# Altium schematic symbol library VC099_V13_20211125_Library.SchLib: 284 symbols (part 19 of 28)
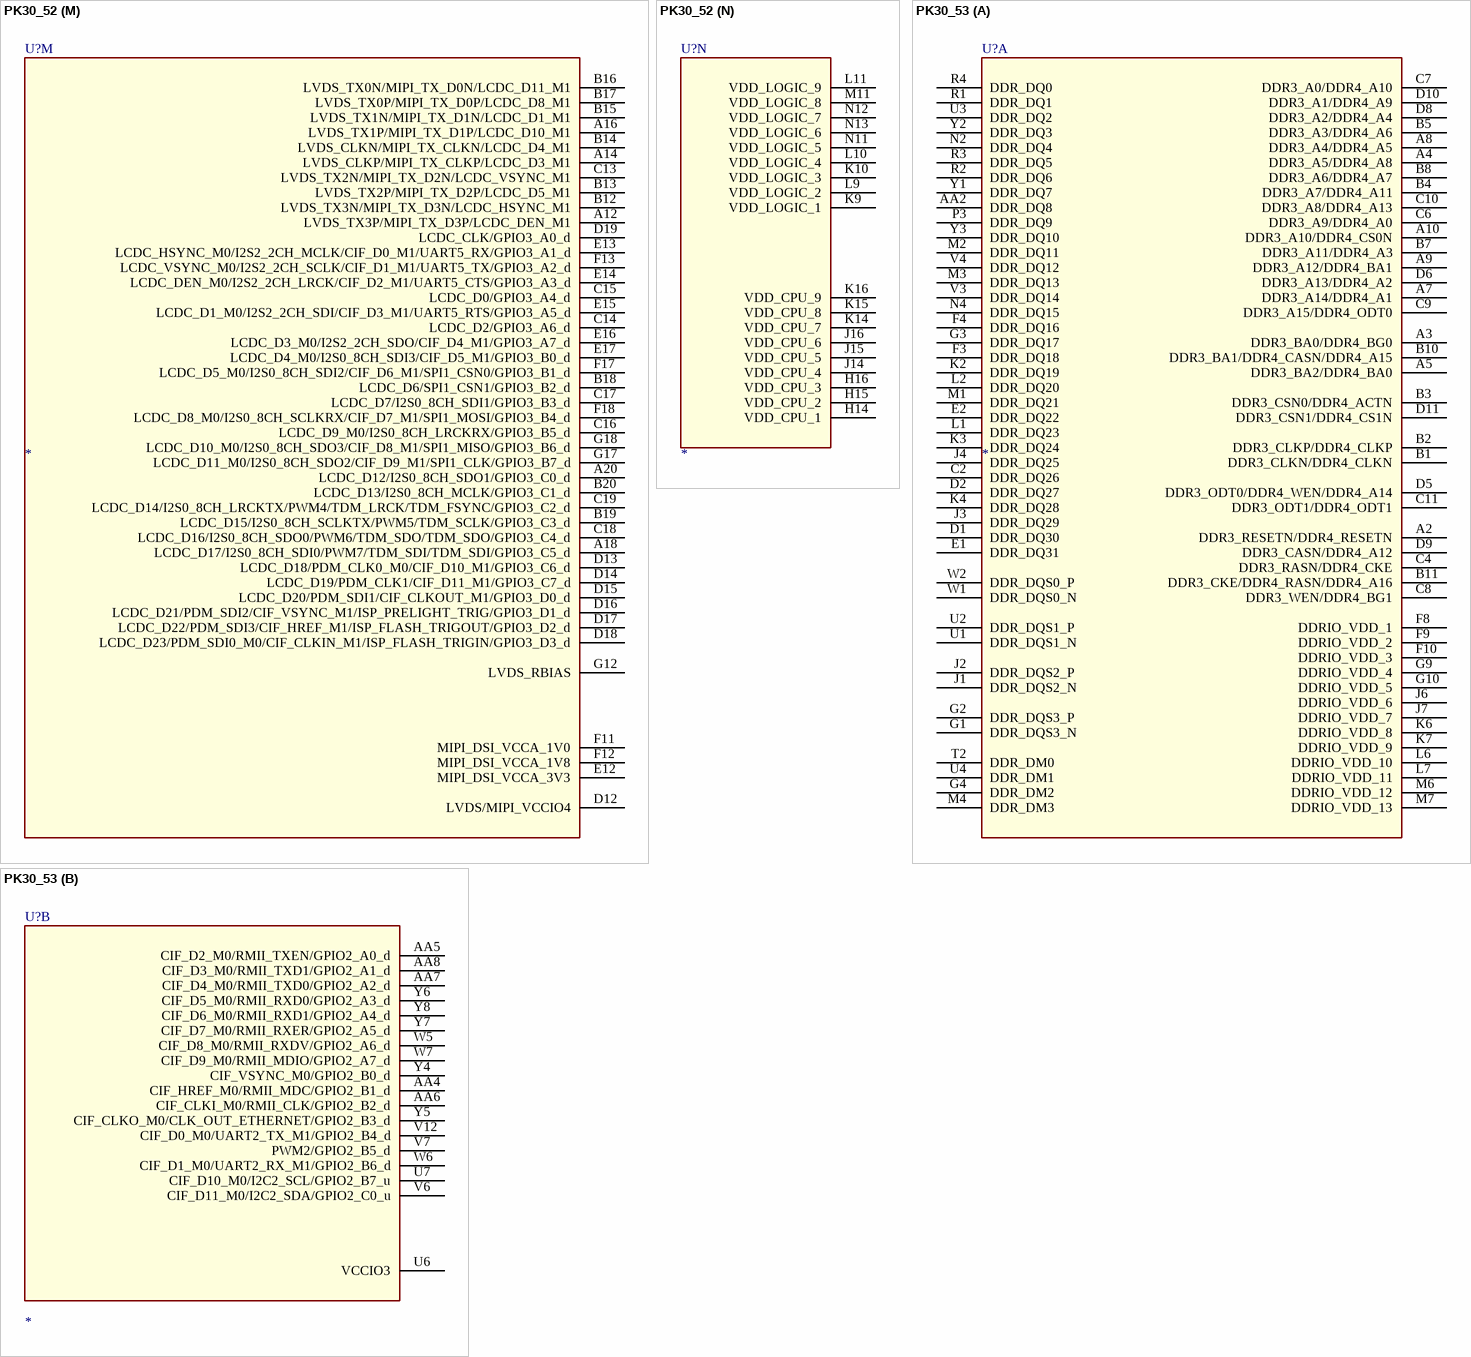
[diagram p381: symbols PK30_52 to PK30_53]

## PK30_52
designator U?
SPLIT_INST: TRUE; SWAP_INFO: (S1+S2+S3+S4+S5+S6+S7+S8+S9+S10+S11+S12+S13+S14)
part A pins: A2 DDR3_RESETN/DDR4_RESETN, A3 DDR3_BA0/DDR4_BG0, A4 DDR3_A5/DDR4_A8, A5 DDR3_BA2/DDR4_BA0, A7 DDR3_A14/DDR4_A1, A8 DDR3_A4/DDR4_A5, A9 DDR3_A12/DDR4_BA1, A10 DDR3_A10/DDR4_CS0N, AA2 DDR_DQ8, B1 DDR3_CLKN/DDR4_CLKN, B2 DDR3_CLKP/DDR4_CLKP, B3 DDR3_CSN0/DDR4_ACTN, B4 DDR3_A7/DDR4_A11, B5 DDR3_A3/DDR4_A6, B7 DDR3_A11/DDR4_A3, B8 DDR3_A6/DDR4_A7, B10 DDR3_BA1/DDR4_CASN/DDR4_A15, B11 DDR3_CKE/DDR4_RASN/DDR4_A16, C2 DDR_DQ26, C4 DDR3_RASN/DDR4_CKE, C6 DDR3_A9/DDR4_A0, C7 DDR3_A0/DDR4_A10, C8 DDR3_WEN/DDR4_BG1, C9 DDR3_A15/DDR4_ODT0, C10 DDR3_A8/DDR4_A13, C11 DDR3_ODT1/DDR4_ODT1, D1 DDR_DQ30, D2 DDR_DQ27, D5 DDR3_ODT0/DDR4_WEN/DDR4_A14, D6 DDR3_A13/DDR4_A2, D8 DDR3_A2/DDR4_A4, D9 DDR3_CASN/DDR4_A12, D10 DDR3_A1/DDR4_A9, D11 DDR3_CSN1/DDR4_CS1N, E1 DDR_DQ31, E2 DDR_DQ22, F3 DDR_DQ18, F4 DDR_DQ16, F8 DDRIO_VDD_1, F9 DDRIO_VDD_2, F10 DDRIO_VDD_3, G1 DDR_DQS3_N, G2 DDR_DQS3_P, G3 DDR_DQ17, G4 DDR_DM2, G9 DDRIO_VDD_4, G10 DDRIO_VDD_5, J1 DDR_DQS2_N, J2 DDR_DQS2_P, J3 DDR_DQ29, J4 DDR_DQ25, J6 DDRIO_VDD_6, J7 DDRIO_VDD_7, K2 DDR_DQ19, K3 DDR_DQ24, K4 DDR_DQ28, K6 DDRIO_VDD_8, K7 DDRIO_VDD_9, L1 DDR_DQ23, L2 DDR_DQ20, L6 DDRIO_VDD_10, L7 DDRIO_VDD_11, M1 DDR_DQ21, M2 DDR_DQ11, M3 DDR_DQ13, M4 DDR_DM3, M6 DDRIO_VDD_12, M7 DDRIO_VDD_13, N2 DDR_DQ4, N4 DDR_DQ15, P3 DDR_DQ9, R1 DDR_DQ1, R2 DDR_DQ6, R3 DDR_DQ5, R4 DDR_DQ0, T2 DDR_DM0, U1 DDR_DQS1_N, U2 DDR_DQS1_P, U3 DDR_DQ2, U4 DDR_DM1, V3 DDR_DQ14, V4 DDR_DQ12, W1 DDR_DQS0_N, W2 DDR_DQS0_P, Y1 DDR_DQ7, Y2 DDR_DQ3, Y3 DDR_DQ10
part B pins: AA4 CIF_HREF_M0/RMII_MDC/GPIO2_B1_d, AA5 CIF_D2_M0/RMII_TXEN/GPIO2_A0_d, AA6 CIF_CLKI_M0/RMII_CLK/GPIO2_B2_d, AA7 CIF_D4_M0/RMII_TXD0/GPIO2_A2_d, AA8 CIF_D3_M0/RMII_TXD1/GPIO2_A1_d, U6 VCCIO3, U7 CIF_D10_M0/I2C2_SCL/GPIO2_B7_u, V6 CIF_D11_M0/I2C2_SDA/GPIO2_C0_u, V7 PWM2/GPIO2_B5_d, V12 CIF_D0_M0/UART2_TX_M1/GPIO2_B4_d, W5 CIF_D8_M0/RMII_RXDV/GPIO2_A6_d, W6 CIF_D1_M0/UART2_RX_M1/GPIO2_B6_d, W7 CIF_D9_M0/RMII_MDIO/GPIO2_A7_d, Y4 CIF_VSYNC_M0/GPIO2_B0_d, Y5 CIF_CLKO_M0/CLK_OUT_ETHERNET/GPIO2_B3_d, Y6 CIF_D5_M0/RMII_RXD0/GPIO2_A3_d, Y7 CIF_D7_M0/RMII_RXER/GPIO2_A5_d, Y8 CIF_D6_M0/RMII_RXD1/GPIO2_A4_d
part C pins: A1 VSS_1, A11 VSS_5, A21 VSS_2, AA1 VSS_4, AA3 VSS_98, AA21 VSS_3, B6 VSS_6, B9 VSS_7, C3 VSS_8, C5 VSS_9, C12 VSS_10, D3 VSS_11, D4 VSS_12, D7 VSS_13, E3 VSS_14, E4 VSS_15, E5 VSS_16, E6 VSS_17, E7 VSS_18, E8 VSS_19, E9 VSS_20, E10 VSS_21, E11 VSS_24, F2 VSS_22, F5 VSS_23, F14 VSS_25, F15 VSS_26, F16 VSS_27, G5 VSS_28, G7 VSS_29, G8 VSS_30, G11 VSS_31, G13 VSS_33, G14 VSS_34, G15 VSS_48, G16 VSS_47, H2 VSS_37, H3 VSS_38, H4 VSS_39, H5 VSS_40, H7 VSS_41, H8 VSS_42, H9 VSS_43, H10 VSS_44, H11 VSS_45, H12 VSS_46, H13 VSS_55, H17 VSS_57, HOLE1, HOLE2, HOLE3, HOLE4, J5 VSS_49, J8 VSS_50, J9 VSS_51, J10 VSS_52, J11 VSS_53, J12 VSS_54, J13 VSS_64, J17 VSS_56, K5 VSS_58, K8 VSS_59, K11 VSS_61, K12 VSS_63, K13 VSS_65, K17 VSS_67, K18 VSS_68, L3 VSS_70, L4 VSS_71, L5 VSS_72, L8 VSS_73, L12 VSS_77, L13 VSS_69, L14 VSS_66, L15 VSS_87, L16 VSS_88, L17 VSS_78, L18 VSS_79, M5 VSS_80, M8 VSS_81, M9 VSS_84, M10 VSS_85, M12 VSS_62, M13 VSS_60, M14 VSS_75, M15 VSS_82, M16 VSS_83, M17 VSS_86, N3 VSS_89, N5 VSS_90, N6 VSS_91, N7 VSS_92, N8 VSS_93, N9 VSS_96, N10 VSS_97, N14 VSS_74, N15 VSS_94, N16 VSS_95, P4 VSS_100, P5 VSS_101, P6 VSS_102, P7 VSS_103, P8 VSS_104, P9 VSS_105, P10 VSS_106, P11 VSS_107, P12 VSS_108, P13 VSS_109, P14 VSS_110, P15 VSS_112, P16 VSS_111, R5 VSS_113, R6 VSS_114, R7 VSS_115, R8 VSS_116, R9 VSS_117, R10 VSS_118, R11 VSS_119, R12 VSS_120, R13 VSS_121, R14 VSS_122, R15 VSS_123, R16 VSS_124, R17 VSS_125, T3 VSS_126, T4 VSS_127, T5 VSS_128, T6 VSS_129, T7 VSS_130, T8 VSS_131, T9 VSS_132, T10 VSS_133, T11 VSS_134, T12 VSS_36, T14 VSS_136, T15 VSS_137, T16 VSS_138, T17 VSS_139, T18 VSS_140, U5 VSS_141, U14 VSS_142, U15 VSS_143, U16 VSS_144, U17 VSS_145, U18 VSS_146, V2 VSS_147, V5 VSS_148, V16 VSS_149, V17 VSS_150, V18 VSS_151, V19 VSS_152, W3 VSS_32, W4 VSS_135, W11 VSS_35, W17 VSS_99, W18 VSS_76
part D pins: U8 MIPI_CSI_AVDD_1V0, U9 MIPI_CSI_D2P, U10 MIPI_CSI_CLKN, U11 MIPI_CSI_RBIAS, V8 MIPI_CSI_D2N, V9 MIPI_CSI_D3P, V10 MIPI_CSI_CLKP, V11 MIPI_CSI_D0N, W8 MIPI_CSI_D3N, W9 MIPI_CSI_D1N, W10 MIPI_CSI_D0P, Y9 MIPI_CSI_D1P
part E pins: AA10 USB_OTG_DM, AA11 USB_RBIAS, AA12 USB_HOST_DP, U12 USB_AVDD_1V0, V13 USB_AVDD_1V8, W13 USB_AVDD_3V3, Y10 USB_OTG_DP, Y11 USB_ID, Y12 USB_HOST_DM, Y13 USB_VBUS
part F pins: U13 ADC_AVDD_1V8, V14 ADC_IN0, V15 ADC_IN2, W14 ADC_IN1
part G pins: AA13 I2S1_2CH_SDI/PDM_SDIO_M1/GPIO2_C5_d, AA14 I2S1_2CH_SCLK/GPIO2_C2_d, AA15 I2S1_2CH_LRCK_TXRX/GPIO2_C1_d, W15 PDM_CLK0/GPIO2_C6_d, W16 VCCIO5, Y14 I2S1_2CH_MCLK/GPIO2_C3_d, Y15 I2S1_2CH_SDO/GPIO2_C4_d
part H pins: AA16 SDMMC0_D3/UART4_TX/JTAG_TMS/GPIO1_D5_u, AA17 SDMMC0_D0/UART2_TX_M0/GPIO1_D2_u, AA18 SDMMC0_D1/UART2_RX_M0/GPIO1_D3_u, AA19 SDMMC0_D2/UART4_RX/JTAG_TCK/GPIO1_D4_u, Y16 SDMMC0_CMD/UART4_RTS/GPIO1_D7_u, Y17 SDMMC0_CLKO/UART4_CTS/TEST_CLKO/GPIO1_D6_d, Y18 VCCIO2
part I pins: AA20 SDMMC0_DETN/GPIO0_A3_u, M18 PLL_AVDD_1V8, N17 AVSS, N18 PLL_AVDD_1V0, P17 PMU_VDD_1V0, T13 OTP_VCC_1V8, T21 GPIO0_A5_u, U19 PMUIO1, U20 OSC_24M_IN, U21 OSC_24M_OUT, V20 PMIC_SLEEP/GPIO0_A4_d, V21 GPIO0_A2_d, W19 NPOR, W20 TEST, W21 TSADC_SHUT/GPIO0_A6_z, Y19 GPIO0_A7_u, Y20 GPIO0_A1_d, Y21 REF_CLKO/GPIO0_A0_d
part J pins: M19 PWM0/OTG_DRV/GPIO0_B7_d, N19 UART0_RTS/TEST_CLK1/GPIO0_B5_u, N20 UART0_TX/GPIO0_B2_d, N21 UART3_TX_M0/PWM1/GPIO0_C0_d, P18 UART0_RX/GPIO0_B3_d, P19 UART3_RX_M0/PWM3/GPIO0_C1_d, P20 CLKIO_32K/GPIO0_C4_z, P21 I2C0_SDA/GPIO0_B1_u, R18 UART0_CTS/PMU_DEBUG_SOUT/PMU_DEBUG2/GPIO0_B4_u, R19 FLASH_VOLSEL/GPIO0_B6_u, R20 I2C1_SDA/UART3_RTS_M0/GPIO0_C3_d, R21 I2C0_SCL/GPIO0_B0_u, T19 OSC_VCCIO/PMUIO2, T20 I2C1_SCL/UART3_CTS_M0/PMU_DEBUG5/GPIO0_C2_d
part K pins: H19 SDMMC1_CMD/GPIO1_C4_u, J19 SDMMC1_D3/GPIO1_D1_u, J20 UART1_RX/GPIO1_C0_u, K19 VCCIO1, K20 UART1_TX/GPIO1_C1_u, K21 UART1_CTS/GPIO1_C2_u, L19 SDMMC1_D1/GPIO1_C7_u, L20 SDMMC1_D0/GPIO1_C6_u, L21 UART1_RTS/GPIO1_C3_u, M20 SDMMC1_CLK/GPIO1_C5_d, M21 SDMMC1_D2/GPIO1_D0_u
part L pins: B21 FLASH_D7/EMMC_D7/GPIO1_A7_u, C20 FLASH_D6/EMMC_D6/GPIO1_A6_u, C21 FLASH_D2/EMMC_D2/SFC_SIO2/GPIO1_A2_u, D20 FLASH_D5/EMMC_D5/GPIO1_A5_u, D21 FLASH_D1/EMMC_D1/SFC_SIO1/GPIO1_A1_u, E18 FLASH_ALE/EMMC_RSTN/GPIO1_B3_d, E19 FLASH_D3/EMMC_D3/SFC_SIO3/GPIO1_A3_u, E20 FLASH_D0/EMMC_D0/SFC_SIO0/GPIO1_A0_u, E21 FLASH_D4/EMMC_D4/SFC_CSN0/GPIO1_A4_u, F19 FLASH_CS0/GPIO1_B0_u, G19 FLASH_DQS/EMMC_CMD/GPIO1_B2_u, G20 FLASH_CS1/UART3_TX_M1/SPI0_CSN/GPIO1_B6_u, G21 FLASH_CLE/UART3_CTS_M1/SPI0_TXD/I2C3_SDA/GPIO1_B4_d, H18 FLASH_RDY/EMMC_CLKOUT/SFC_CLK/GPIO1_B1_u, H20 FLASH_WRN/UART3_RTS_M1/SPI0_RXD/I2C3_SCL/GPIO1_B5_u, H21 FLASH_RDN/UART3_RX_M1/SPI0_CLK/GPIO1_B7_u, J18 VCCIO6
part M pins: A12 LVDS_TX3P/MIPI_TX_D3P/LCDC_DEN_M1, A14 LVDS_CLKP/MIPI_TX_CLKP/LCDC_D3_M1, A16 LVDS_TX1P/MIPI_TX_D1P/LCDC_D10_M1, A18 LCDC_D17/I2S0_8CH_SDI0/PWM7/TDM_SDI/TDM_SDI/GPIO3_C5_d, A20 LCDC_D12/I2S0_8CH_SDO1/GPIO3_C0_d, B12 LVDS_TX3N/MIPI_TX_D3N/LCDC_HSYNC_M1, B13 LVDS_TX2P/MIPI_TX_D2P/LCDC_D5_M1, B14 LVDS_CLKN/MIPI_TX_CLKN/LCDC_D4_M1, B15 LVDS_TX1N/MIPI_TX_D1N/LCDC_D1_M1, B16 LVDS_TX0N/MIPI_TX_D0N/LCDC_D11_M1, B17 LVDS_TX0P/MIPI_TX_D0P/LCDC_D8_M1, B18 LCDC_D6/SPI1_CSN1/GPIO3_B2_d, B19 LCDC_D15/I2S0_8CH_SCLKTX/PWM5/TDM_SCLK/GPIO3_C3_d, B20 LCDC_D13/I2S0_8CH_MCLK/GPIO3_C1_d, C13 LVDS_TX2N/MIPI_TX_D2N/LCDC_VSYNC_M1, C14 LCDC_D2/GPIO3_A6_d, C15 LCDC_D0/GPIO3_A4_d, C16 LCDC_D9_M0/I2S0_8CH_LRCKRX/GPIO3_B5_d, C17 LCDC_D7/I2S0_8CH_SDI1/GPIO3_B3_d, C18 LCDC_D16/I2S0_8CH_SDO0/PWM6/TDM_SDO/TDM_SDO/GPIO3_C4_d, C19 LCDC_D14/I2S0_8CH_LRCKTX/PWM4/TDM_LRCK/TDM_FSYNC/GPIO3_C2_d, D12 LVDS/MIPI_VCCIO4, D13 LCDC_D18/PDM_CLK0_M0/CIF_D10_M1/GPIO3_C6_d, D14 LCDC_D19/PDM_CLK1/CIF_D11_M1/GPIO3_C7_d, D15 LCDC_D20/PDM_SDI1/CIF_CLKOUT_M1/GPIO3_D0_d, D16 LCDC_D21/PDM_SDI2/CIF_VSYNC_M1/ISP_PRELIGHT_TRIG/GPIO3_D1_d, D17 LCDC_D22/PDM_SDI3/CIF_HREF_M1/ISP_FLASH_TRIGOUT/GPIO3_D2_d, D18 LCDC_D23/PDM_SDI0_M0/CIF_CLKIN_M1/ISP_FLASH_TRIGIN/GPIO3_D3_d, D19 LCDC_CLK/GPIO3_A0_d, E12 MIPI_DSI_VCCA_3V3, E13 LCDC_HSYNC_M0/I2S2_2CH_MCLK/CIF_D0_M1/UART5_RX/GPIO3_A1_d, E14 LCDC_DEN_M0/I2S2_2CH_LRCK/CIF_D2_M1/UART5_CTS/GPIO3_A3_d, E15 LCDC_D1_M0/I2S2_2CH_SDI/CIF_D3_M1/UART5_RTS/GPIO3_A5_d, E16 LCDC_D3_M0/I2S2_2CH_SDO/CIF_D4_M1/GPIO3_A7_d, E17 LCDC_D4_M0/I2S0_8CH_SDI3/CIF_D5_M1/GPIO3_B0_d, F11 MIPI_DSI_VCCA_1V0, F12 MIPI_DSI_VCCA_1V8, F13 LCDC_VSYNC_M0/I2S2_2CH_SCLK/CIF_D1_M1/UART5_TX/GPIO3_A2_d, F17 LCDC_D5_M0/I2S0_8CH_SDI2/CIF_D6_M1/SPI1_CSN0/GPIO3_B1_d, F18 LCDC_D8_M0/I2S0_8CH_SCLKRX/CIF_D7_M1/SPI1_MOSI/GPIO3_B4_d, G12 LVDS_RBIAS, G17 LCDC_D11_M0/I2S0_8CH_SDO2/CIF_D9_M1/SPI1_CLK/GPIO3_B7_d, G18 LCDC_D10_M0/I2S0_8CH_SDO3/CIF_D8_M1/SPI1_MISO/GPIO3_B6_d
part N pins: H14 VDD_CPU_1, H15 VDD_CPU_2, H16 VDD_CPU_3, J14 VDD_CPU_4, J15 VDD_CPU_5, J16 VDD_CPU_6, K9 VDD_LOGIC_1, K10 VDD_LOGIC_3, K14 VDD_CPU_7, K15 VDD_CPU_8, K16 VDD_CPU_9, L9 VDD_LOGIC_2, L10 VDD_LOGIC_4, L11 VDD_LOGIC_9, M11 VDD_LOGIC_8, N11 VDD_LOGIC_5, N12 VDD_LOGIC_7, N13 VDD_LOGIC_6
part J text: FLASH_VOLSEL  1: VCCIO_FLASH=1.8V / 0: VCCIO_FLASH=3.3V

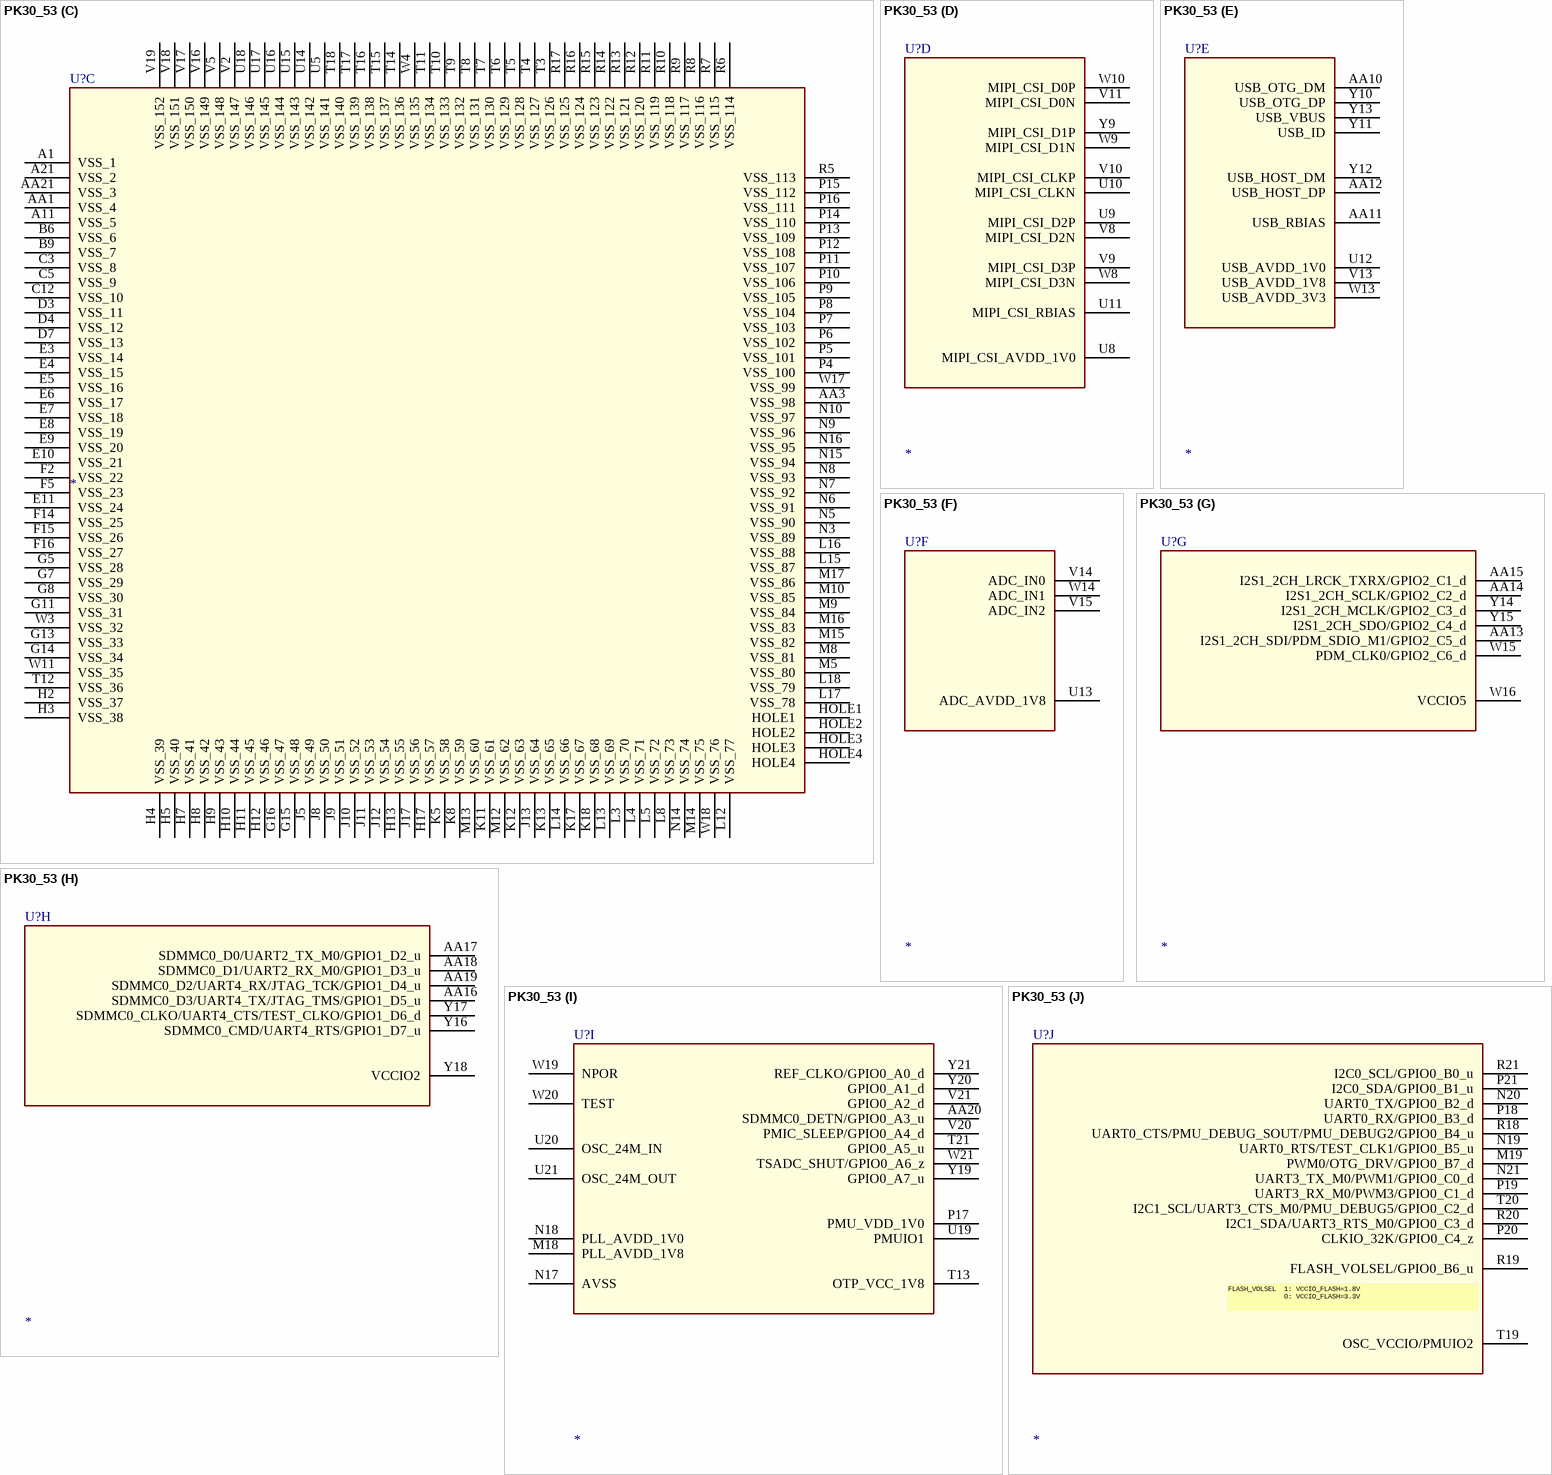
[diagram p252: symbol PK30_53]

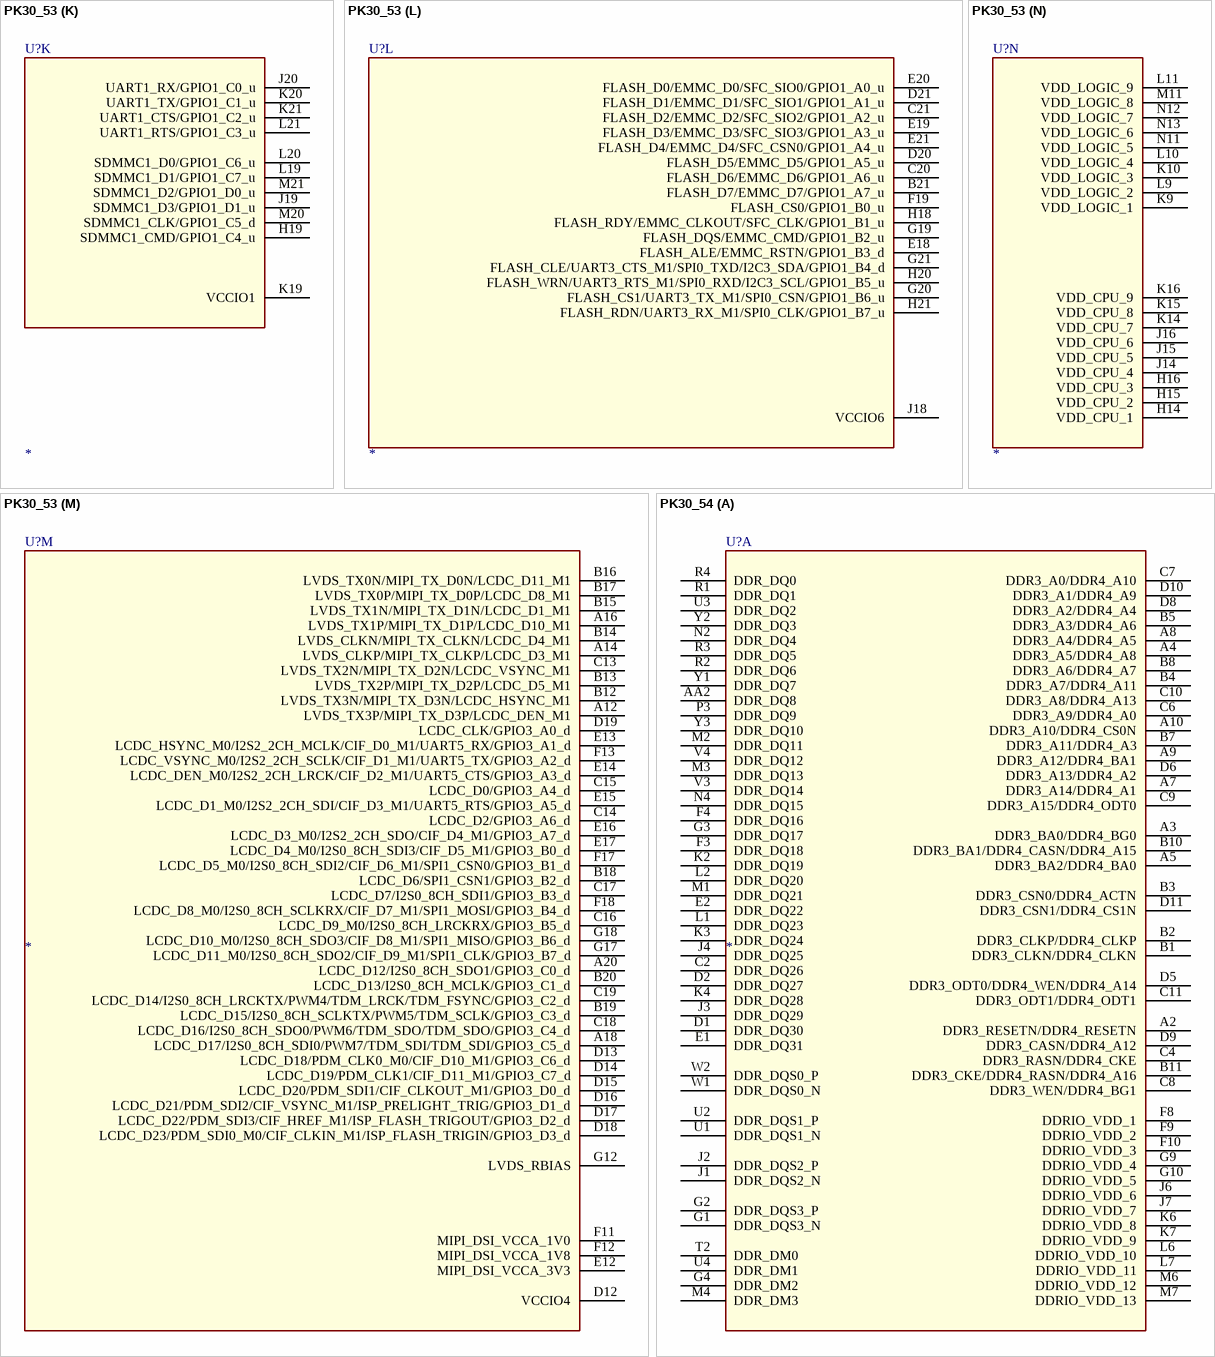
[diagram p253: symbols PK30_53 to PK30_54]

## PK30_53
designator U?
SPLIT_INST: TRUE; SWAP_INFO: (S1+S2+S3+S4+S5+S6+S7+S8+S9+S10+S11+S12+S13+S14)
part A pins: A2 DDR3_RESETN/DDR4_RESETN, A3 DDR3_BA0/DDR4_BG0, A4 DDR3_A5/DDR4_A8, A5 DDR3_BA2/DDR4_BA0, A7 DDR3_A14/DDR4_A1, A8 DDR3_A4/DDR4_A5, A9 DDR3_A12/DDR4_BA1, A10 DDR3_A10/DDR4_CS0N, AA2 DDR_DQ8, B1 DDR3_CLKN/DDR4_CLKN, B2 DDR3_CLKP/DDR4_CLKP, B3 DDR3_CSN0/DDR4_ACTN, B4 DDR3_A7/DDR4_A11, B5 DDR3_A3/DDR4_A6, B7 DDR3_A11/DDR4_A3, B8 DDR3_A6/DDR4_A7, B10 DDR3_BA1/DDR4_CASN/DDR4_A15, B11 DDR3_CKE/DDR4_RASN/DDR4_A16, C2 DDR_DQ26, C4 DDR3_RASN/DDR4_CKE, C6 DDR3_A9/DDR4_A0, C7 DDR3_A0/DDR4_A10, C8 DDR3_WEN/DDR4_BG1, C9 DDR3_A15/DDR4_ODT0, C10 DDR3_A8/DDR4_A13, C11 DDR3_ODT1/DDR4_ODT1, D1 DDR_DQ30, D2 DDR_DQ27, D5 DDR3_ODT0/DDR4_WEN/DDR4_A14, D6 DDR3_A13/DDR4_A2, D8 DDR3_A2/DDR4_A4, D9 DDR3_CASN/DDR4_A12, D10 DDR3_A1/DDR4_A9, D11 DDR3_CSN1/DDR4_CS1N, E1 DDR_DQ31, E2 DDR_DQ22, F3 DDR_DQ18, F4 DDR_DQ16, F8 DDRIO_VDD_1, F9 DDRIO_VDD_2, F10 DDRIO_VDD_3, G1 DDR_DQS3_N, G2 DDR_DQS3_P, G3 DDR_DQ17, G4 DDR_DM2, G9 DDRIO_VDD_4, G10 DDRIO_VDD_5, J1 DDR_DQS2_N, J2 DDR_DQS2_P, J3 DDR_DQ29, J4 DDR_DQ25, J6 DDRIO_VDD_6, J7 DDRIO_VDD_7, K2 DDR_DQ19, K3 DDR_DQ24, K4 DDR_DQ28, K6 DDRIO_VDD_8, K7 DDRIO_VDD_9, L1 DDR_DQ23, L2 DDR_DQ20, L6 DDRIO_VDD_10, L7 DDRIO_VDD_11, M1 DDR_DQ21, M2 DDR_DQ11, M3 DDR_DQ13, M4 DDR_DM3, M6 DDRIO_VDD_12, M7 DDRIO_VDD_13, N2 DDR_DQ4, N4 DDR_DQ15, P3 DDR_DQ9, R1 DDR_DQ1, R2 DDR_DQ6, R3 DDR_DQ5, R4 DDR_DQ0, T2 DDR_DM0, U1 DDR_DQS1_N, U2 DDR_DQS1_P, U3 DDR_DQ2, U4 DDR_DM1, V3 DDR_DQ14, V4 DDR_DQ12, W1 DDR_DQS0_N, W2 DDR_DQS0_P, Y1 DDR_DQ7, Y2 DDR_DQ3, Y3 DDR_DQ10
part B pins: AA4 CIF_HREF_M0/RMII_MDC/GPIO2_B1_d, AA5 CIF_D2_M0/RMII_TXEN/GPIO2_A0_d, AA6 CIF_CLKI_M0/RMII_CLK/GPIO2_B2_d, AA7 CIF_D4_M0/RMII_TXD0/GPIO2_A2_d, AA8 CIF_D3_M0/RMII_TXD1/GPIO2_A1_d, U6 VCCIO3, U7 CIF_D10_M0/I2C2_SCL/GPIO2_B7_u, V6 CIF_D11_M0/I2C2_SDA/GPIO2_C0_u, V7 PWM2/GPIO2_B5_d, V12 CIF_D0_M0/UART2_TX_M1/GPIO2_B4_d, W5 CIF_D8_M0/RMII_RXDV/GPIO2_A6_d, W6 CIF_D1_M0/UART2_RX_M1/GPIO2_B6_d, W7 CIF_D9_M0/RMII_MDIO/GPIO2_A7_d, Y4 CIF_VSYNC_M0/GPIO2_B0_d, Y5 CIF_CLKO_M0/CLK_OUT_ETHERNET/GPIO2_B3_d, Y6 CIF_D5_M0/RMII_RXD0/GPIO2_A3_d, Y7 CIF_D7_M0/RMII_RXER/GPIO2_A5_d, Y8 CIF_D6_M0/RMII_RXD1/GPIO2_A4_d
part C pins: A1 VSS_1, A11 VSS_5, A21 VSS_2, AA1 VSS_4, AA3 VSS_98, AA21 VSS_3, B6 VSS_6, B9 VSS_7, C3 VSS_8, C5 VSS_9, C12 VSS_10, D3 VSS_11, D4 VSS_12, D7 VSS_13, E3 VSS_14, E4 VSS_15, E5 VSS_16, E6 VSS_17, E7 VSS_18, E8 VSS_19, E9 VSS_20, E10 VSS_21, E11 VSS_24, F2 VSS_22, F5 VSS_23, F14 VSS_25, F15 VSS_26, F16 VSS_27, G5 VSS_28, G7 VSS_29, G8 VSS_30, G11 VSS_31, G13 VSS_33, G14 VSS_34, G15 VSS_48, G16 VSS_47, H2 VSS_37, H3 VSS_38, H4 VSS_39, H5 VSS_40, H7 VSS_41, H8 VSS_42, H9 VSS_43, H10 VSS_44, H11 VSS_45, H12 VSS_46, H13 VSS_55, H17 VSS_57, HOLE1, HOLE2, HOLE3, HOLE4, J5 VSS_49, J8 VSS_50, J9 VSS_51, J10 VSS_52, J11 VSS_53, J12 VSS_54, J13 VSS_64, J17 VSS_56, K5 VSS_58, K8 VSS_59, K11 VSS_61, K12 VSS_63, K13 VSS_65, K17 VSS_67, K18 VSS_68, L3 VSS_70, L4 VSS_71, L5 VSS_72, L8 VSS_73, L12 VSS_77, L13 VSS_69, L14 VSS_66, L15 VSS_87, L16 VSS_88, L17 VSS_78, L18 VSS_79, M5 VSS_80, M8 VSS_81, M9 VSS_84, M10 VSS_85, M12 VSS_62, M13 VSS_60, M14 VSS_75, M15 VSS_82, M16 VSS_83, M17 VSS_86, N3 VSS_89, N5 VSS_90, N6 VSS_91, N7 VSS_92, N8 VSS_93, N9 VSS_96, N10 VSS_97, N14 VSS_74, N15 VSS_94, N16 VSS_95, P4 VSS_100, P5 VSS_101, P6 VSS_102, P7 VSS_103, P8 VSS_104, P9 VSS_105, P10 VSS_106, P11 VSS_107, P12 VSS_108, P13 VSS_109, P14 VSS_110, P15 VSS_112, P16 VSS_111, R5 VSS_113, R6 VSS_114, R7 VSS_115, R8 VSS_116, R9 VSS_117, R10 VSS_118, R11 VSS_119, R12 VSS_120, R13 VSS_121, R14 VSS_122, R15 VSS_123, R16 VSS_124, R17 VSS_125, T3 VSS_126, T4 VSS_127, T5 VSS_128, T6 VSS_129, T7 VSS_130, T8 VSS_131, T9 VSS_132, T10 VSS_133, T11 VSS_134, T12 VSS_36, T14 VSS_136, T15 VSS_137, T16 VSS_138, T17 VSS_139, T18 VSS_140, U5 VSS_141, U14 VSS_142, U15 VSS_143, U16 VSS_144, U17 VSS_145, U18 VSS_146, V2 VSS_147, V5 VSS_148, V16 VSS_149, V17 VSS_150, V18 VSS_151, V19 VSS_152, W3 VSS_32, W4 VSS_135, W11 VSS_35, W17 VSS_99, W18 VSS_76
part D pins: U8 MIPI_CSI_AVDD_1V0, U9 MIPI_CSI_D2P, U10 MIPI_CSI_CLKN, U11 MIPI_CSI_RBIAS, V8 MIPI_CSI_D2N, V9 MIPI_CSI_D3P, V10 MIPI_CSI_CLKP, V11 MIPI_CSI_D0N, W8 MIPI_CSI_D3N, W9 MIPI_CSI_D1N, W10 MIPI_CSI_D0P, Y9 MIPI_CSI_D1P
part E pins: AA10 USB_OTG_DM, AA11 USB_RBIAS, AA12 USB_HOST_DP, U12 USB_AVDD_1V0, V13 USB_AVDD_1V8, W13 USB_AVDD_3V3, Y10 USB_OTG_DP, Y11 USB_ID, Y12 USB_HOST_DM, Y13 USB_VBUS
part F pins: U13 ADC_AVDD_1V8, V14 ADC_IN0, V15 ADC_IN2, W14 ADC_IN1
part G pins: AA13 I2S1_2CH_SDI/PDM_SDIO_M1/GPIO2_C5_d, AA14 I2S1_2CH_SCLK/GPIO2_C2_d, AA15 I2S1_2CH_LRCK_TXRX/GPIO2_C1_d, W15 PDM_CLK0/GPIO2_C6_d, W16 VCCIO5, Y14 I2S1_2CH_MCLK/GPIO2_C3_d, Y15 I2S1_2CH_SDO/GPIO2_C4_d
part H pins: AA16 SDMMC0_D3/UART4_TX/JTAG_TMS/GPIO1_D5_u, AA17 SDMMC0_D0/UART2_TX_M0/GPIO1_D2_u, AA18 SDMMC0_D1/UART2_RX_M0/GPIO1_D3_u, AA19 SDMMC0_D2/UART4_RX/JTAG_TCK/GPIO1_D4_u, Y16 SDMMC0_CMD/UART4_RTS/GPIO1_D7_u, Y17 SDMMC0_CLKO/UART4_CTS/TEST_CLKO/GPIO1_D6_d, Y18 VCCIO2
part I pins: AA20 SDMMC0_DETN/GPIO0_A3_u, M18 PLL_AVDD_1V8, N17 AVSS, N18 PLL_AVDD_1V0, P17 PMU_VDD_1V0, T13 OTP_VCC_1V8, T21 GPIO0_A5_u, U19 PMUIO1, U20 OSC_24M_IN, U21 OSC_24M_OUT, V20 PMIC_SLEEP/GPIO0_A4_d, V21 GPIO0_A2_d, W19 NPOR, W20 TEST, W21 TSADC_SHUT/GPIO0_A6_z, Y19 GPIO0_A7_u, Y20 GPIO0_A1_d, Y21 REF_CLKO/GPIO0_A0_d
part J pins: M19 PWM0/OTG_DRV/GPIO0_B7_d, N19 UART0_RTS/TEST_CLK1/GPIO0_B5_u, N20 UART0_TX/GPIO0_B2_d, N21 UART3_TX_M0/PWM1/GPIO0_C0_d, P18 UART0_RX/GPIO0_B3_d, P19 UART3_RX_M0/PWM3/GPIO0_C1_d, P20 CLKIO_32K/GPIO0_C4_z, P21 I2C0_SDA/GPIO0_B1_u, R18 UART0_CTS/PMU_DEBUG_SOUT/PMU_DEBUG2/GPIO0_B4_u, R19 FLASH_VOLSEL/GPIO0_B6_u, R20 I2C1_SDA/UART3_RTS_M0/GPIO0_C3_d, R21 I2C0_SCL/GPIO0_B0_u, T19 OSC_VCCIO/PMUIO2, T20 I2C1_SCL/UART3_CTS_M0/PMU_DEBUG5/GPIO0_C2_d
part K pins: H19 SDMMC1_CMD/GPIO1_C4_u, J19 SDMMC1_D3/GPIO1_D1_u, J20 UART1_RX/GPIO1_C0_u, K19 VCCIO1, K20 UART1_TX/GPIO1_C1_u, K21 UART1_CTS/GPIO1_C2_u, L19 SDMMC1_D1/GPIO1_C7_u, L20 SDMMC1_D0/GPIO1_C6_u, L21 UART1_RTS/GPIO1_C3_u, M20 SDMMC1_CLK/GPIO1_C5_d, M21 SDMMC1_D2/GPIO1_D0_u
part L pins: B21 FLASH_D7/EMMC_D7/GPIO1_A7_u, C20 FLASH_D6/EMMC_D6/GPIO1_A6_u, C21 FLASH_D2/EMMC_D2/SFC_SIO2/GPIO1_A2_u, D20 FLASH_D5/EMMC_D5/GPIO1_A5_u, D21 FLASH_D1/EMMC_D1/SFC_SIO1/GPIO1_A1_u, E18 FLASH_ALE/EMMC_RSTN/GPIO1_B3_d, E19 FLASH_D3/EMMC_D3/SFC_SIO3/GPIO1_A3_u, E20 FLASH_D0/EMMC_D0/SFC_SIO0/GPIO1_A0_u, E21 FLASH_D4/EMMC_D4/SFC_CSN0/GPIO1_A4_u, F19 FLASH_CS0/GPIO1_B0_u, G19 FLASH_DQS/EMMC_CMD/GPIO1_B2_u, G20 FLASH_CS1/UART3_TX_M1/SPI0_CSN/GPIO1_B6_u, G21 FLASH_CLE/UART3_CTS_M1/SPI0_TXD/I2C3_SDA/GPIO1_B4_d, H18 FLASH_RDY/EMMC_CLKOUT/SFC_CLK/GPIO1_B1_u, H20 FLASH_WRN/UART3_RTS_M1/SPI0_RXD/I2C3_SCL/GPIO1_B5_u, H21 FLASH_RDN/UART3_RX_M1/SPI0_CLK/GPIO1_B7_u, J18 VCCIO6
part M pins: A12 LVDS_TX3P/MIPI_TX_D3P/LCDC_DEN_M1, A14 LVDS_CLKP/MIPI_TX_CLKP/LCDC_D3_M1, A16 LVDS_TX1P/MIPI_TX_D1P/LCDC_D10_M1, A18 LCDC_D17/I2S0_8CH_SDI0/PWM7/TDM_SDI/TDM_SDI/GPIO3_C5_d, A20 LCDC_D12/I2S0_8CH_SDO1/GPIO3_C0_d, B12 LVDS_TX3N/MIPI_TX_D3N/LCDC_HSYNC_M1, B13 LVDS_TX2P/MIPI_TX_D2P/LCDC_D5_M1, B14 LVDS_CLKN/MIPI_TX_CLKN/LCDC_D4_M1, B15 LVDS_TX1N/MIPI_TX_D1N/LCDC_D1_M1, B16 LVDS_TX0N/MIPI_TX_D0N/LCDC_D11_M1, B17 LVDS_TX0P/MIPI_TX_D0P/LCDC_D8_M1, B18 LCDC_D6/SPI1_CSN1/GPIO3_B2_d, B19 LCDC_D15/I2S0_8CH_SCLKTX/PWM5/TDM_SCLK/GPIO3_C3_d, B20 LCDC_D13/I2S0_8CH_MCLK/GPIO3_C1_d, C13 LVDS_TX2N/MIPI_TX_D2N/LCDC_VSYNC_M1, C14 LCDC_D2/GPIO3_A6_d, C15 LCDC_D0/GPIO3_A4_d, C16 LCDC_D9_M0/I2S0_8CH_LRCKRX/GPIO3_B5_d, C17 LCDC_D7/I2S0_8CH_SDI1/GPIO3_B3_d, C18 LCDC_D16/I2S0_8CH_SDO0/PWM6/TDM_SDO/TDM_SDO/GPIO3_C4_d, C19 LCDC_D14/I2S0_8CH_LRCKTX/PWM4/TDM_LRCK/TDM_FSYNC/GPIO3_C2_d, D12 VCCIO4, D13 LCDC_D18/PDM_CLK0_M0/CIF_D10_M1/GPIO3_C6_d, D14 LCDC_D19/PDM_CLK1/CIF_D11_M1/GPIO3_C7_d, D15 LCDC_D20/PDM_SDI1/CIF_CLKOUT_M1/GPIO3_D0_d, D16 LCDC_D21/PDM_SDI2/CIF_VSYNC_M1/ISP_PRELIGHT_TRIG/GPIO3_D1_d, D17 LCDC_D22/PDM_SDI3/CIF_HREF_M1/ISP_FLASH_TRIGOUT/GPIO3_D2_d, D18 LCDC_D23/PDM_SDI0_M0/CIF_CLKIN_M1/ISP_FLASH_TRIGIN/GPIO3_D3_d, D19 LCDC_CLK/GPIO3_A0_d, E12 MIPI_DSI_VCCA_3V3, E13 LCDC_HSYNC_M0/I2S2_2CH_MCLK/CIF_D0_M1/UART5_RX/GPIO3_A1_d, E14 LCDC_DEN_M0/I2S2_2CH_LRCK/CIF_D2_M1/UART5_CTS/GPIO3_A3_d, E15 LCDC_D1_M0/I2S2_2CH_SDI/CIF_D3_M1/UART5_RTS/GPIO3_A5_d, E16 LCDC_D3_M0/I2S2_2CH_SDO/CIF_D4_M1/GPIO3_A7_d, E17 LCDC_D4_M0/I2S0_8CH_SDI3/CIF_D5_M1/GPIO3_B0_d, F11 MIPI_DSI_VCCA_1V0, F12 MIPI_DSI_VCCA_1V8, F13 LCDC_VSYNC_M0/I2S2_2CH_SCLK/CIF_D1_M1/UART5_TX/GPIO3_A2_d, F17 LCDC_D5_M0/I2S0_8CH_SDI2/CIF_D6_M1/SPI1_CSN0/GPIO3_B1_d, F18 LCDC_D8_M0/I2S0_8CH_SCLKRX/CIF_D7_M1/SPI1_MOSI/GPIO3_B4_d, G12 LVDS_RBIAS, G17 LCDC_D11_M0/I2S0_8CH_SDO2/CIF_D9_M1/SPI1_CLK/GPIO3_B7_d, G18 LCDC_D10_M0/I2S0_8CH_SDO3/CIF_D8_M1/SPI1_MISO/GPIO3_B6_d
part N pins: H14 VDD_CPU_1, H15 VDD_CPU_2, H16 VDD_CPU_3, J14 VDD_CPU_4, J15 VDD_CPU_5, J16 VDD_CPU_6, K9 VDD_LOGIC_1, K10 VDD_LOGIC_3, K14 VDD_CPU_7, K15 VDD_CPU_8, K16 VDD_CPU_9, L9 VDD_LOGIC_2, L10 VDD_LOGIC_4, L11 VDD_LOGIC_9, M11 VDD_LOGIC_8, N11 VDD_LOGIC_5, N12 VDD_LOGIC_7, N13 VDD_LOGIC_6
part J text: FLASH_VOLSEL  1: VCCIO_FLASH=1.8V / 0: VCCIO_FLASH=3.3V

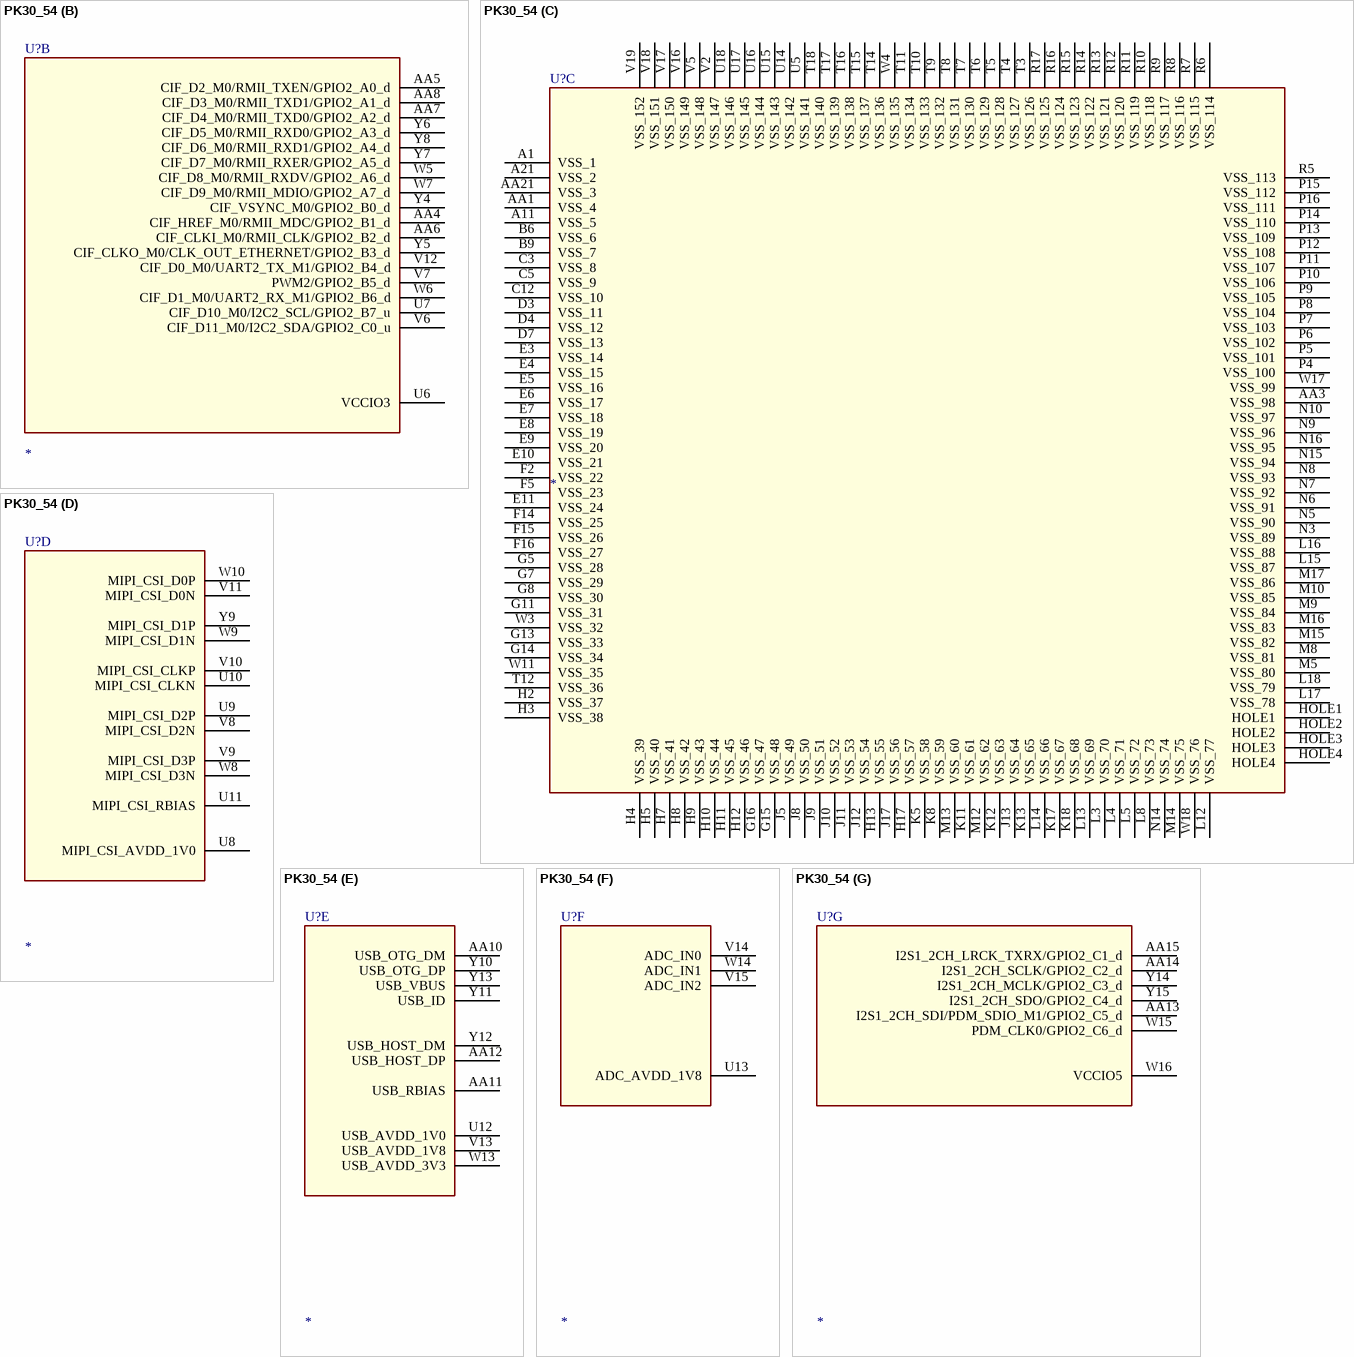
[diagram p254: symbol PK30_54]

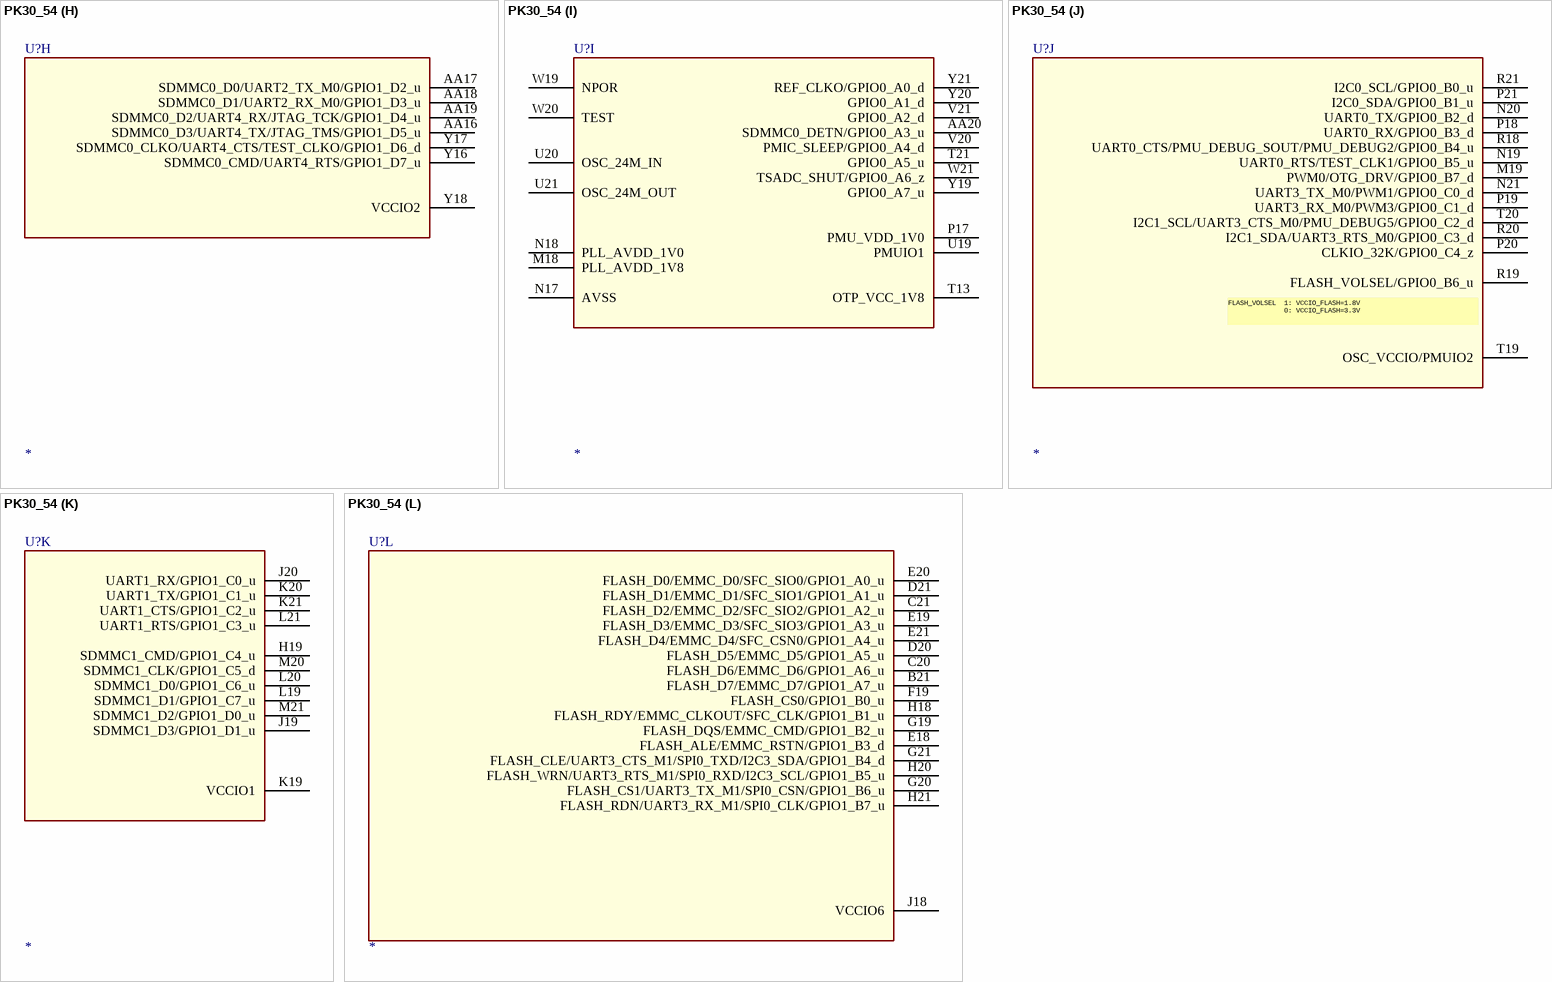
[diagram p255: symbol PK30_54]

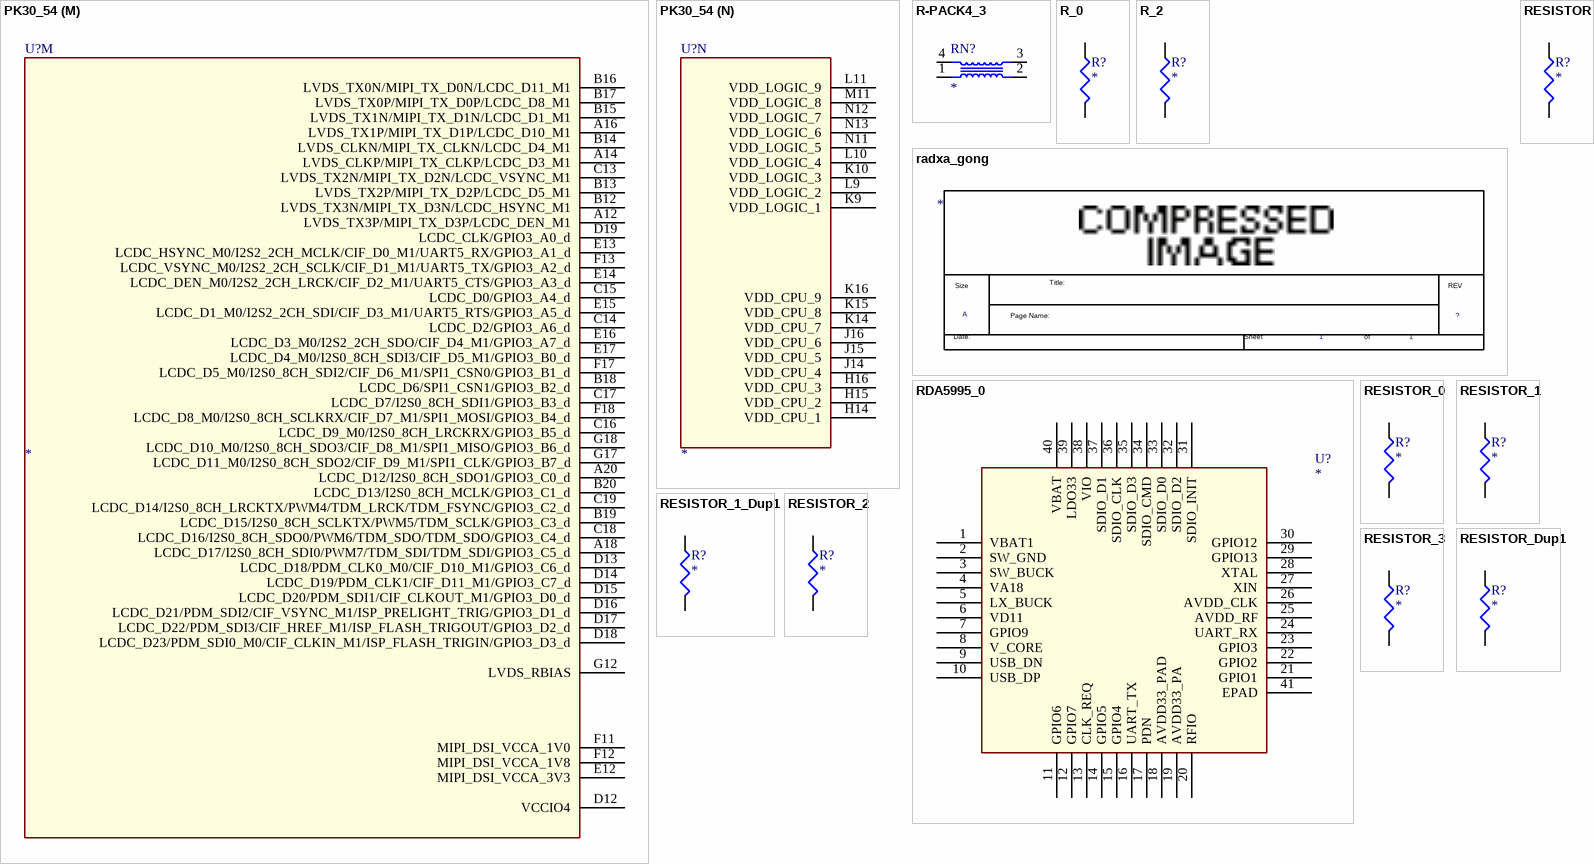
[diagram p256: symbols PK30_54 to RESISTOR_Dup1]

## PK30_54
designator U?
SPLIT_INST: TRUE; SWAP_INFO: (S1+S2+S3+S4+S5+S6+S7+S8+S9+S10+S11+S12+S13+S14)
part A pins: A2 DDR3_RESETN/DDR4_RESETN, A3 DDR3_BA0/DDR4_BG0, A4 DDR3_A5/DDR4_A8, A5 DDR3_BA2/DDR4_BA0, A7 DDR3_A14/DDR4_A1, A8 DDR3_A4/DDR4_A5, A9 DDR3_A12/DDR4_BA1, A10 DDR3_A10/DDR4_CS0N, AA2 DDR_DQ8, B1 DDR3_CLKN/DDR4_CLKN, B2 DDR3_CLKP/DDR4_CLKP, B3 DDR3_CSN0/DDR4_ACTN, B4 DDR3_A7/DDR4_A11, B5 DDR3_A3/DDR4_A6, B7 DDR3_A11/DDR4_A3, B8 DDR3_A6/DDR4_A7, B10 DDR3_BA1/DDR4_CASN/DDR4_A15, B11 DDR3_CKE/DDR4_RASN/DDR4_A16, C2 DDR_DQ26, C4 DDR3_RASN/DDR4_CKE, C6 DDR3_A9/DDR4_A0, C7 DDR3_A0/DDR4_A10, C8 DDR3_WEN/DDR4_BG1, C9 DDR3_A15/DDR4_ODT0, C10 DDR3_A8/DDR4_A13, C11 DDR3_ODT1/DDR4_ODT1, D1 DDR_DQ30, D2 DDR_DQ27, D5 DDR3_ODT0/DDR4_WEN/DDR4_A14, D6 DDR3_A13/DDR4_A2, D8 DDR3_A2/DDR4_A4, D9 DDR3_CASN/DDR4_A12, D10 DDR3_A1/DDR4_A9, D11 DDR3_CSN1/DDR4_CS1N, E1 DDR_DQ31, E2 DDR_DQ22, F3 DDR_DQ18, F4 DDR_DQ16, F8 DDRIO_VDD_1, F9 DDRIO_VDD_2, F10 DDRIO_VDD_3, G1 DDR_DQS3_N, G2 DDR_DQS3_P, G3 DDR_DQ17, G4 DDR_DM2, G9 DDRIO_VDD_4, G10 DDRIO_VDD_5, J1 DDR_DQS2_N, J2 DDR_DQS2_P, J3 DDR_DQ29, J4 DDR_DQ25, J6 DDRIO_VDD_6, J7 DDRIO_VDD_7, K2 DDR_DQ19, K3 DDR_DQ24, K4 DDR_DQ28, K6 DDRIO_VDD_8, K7 DDRIO_VDD_9, L1 DDR_DQ23, L2 DDR_DQ20, L6 DDRIO_VDD_10, L7 DDRIO_VDD_11, M1 DDR_DQ21, M2 DDR_DQ11, M3 DDR_DQ13, M4 DDR_DM3, M6 DDRIO_VDD_12, M7 DDRIO_VDD_13, N2 DDR_DQ4, N4 DDR_DQ15, P3 DDR_DQ9, R1 DDR_DQ1, R2 DDR_DQ6, R3 DDR_DQ5, R4 DDR_DQ0, T2 DDR_DM0, U1 DDR_DQS1_N, U2 DDR_DQS1_P, U3 DDR_DQ2, U4 DDR_DM1, V3 DDR_DQ14, V4 DDR_DQ12, W1 DDR_DQS0_N, W2 DDR_DQS0_P, Y1 DDR_DQ7, Y2 DDR_DQ3, Y3 DDR_DQ10
part B pins: AA4 CIF_HREF_M0/RMII_MDC/GPIO2_B1_d, AA5 CIF_D2_M0/RMII_TXEN/GPIO2_A0_d, AA6 CIF_CLKI_M0/RMII_CLK/GPIO2_B2_d, AA7 CIF_D4_M0/RMII_TXD0/GPIO2_A2_d, AA8 CIF_D3_M0/RMII_TXD1/GPIO2_A1_d, U6 VCCIO3, U7 CIF_D10_M0/I2C2_SCL/GPIO2_B7_u, V6 CIF_D11_M0/I2C2_SDA/GPIO2_C0_u, V7 PWM2/GPIO2_B5_d, V12 CIF_D0_M0/UART2_TX_M1/GPIO2_B4_d, W5 CIF_D8_M0/RMII_RXDV/GPIO2_A6_d, W6 CIF_D1_M0/UART2_RX_M1/GPIO2_B6_d, W7 CIF_D9_M0/RMII_MDIO/GPIO2_A7_d, Y4 CIF_VSYNC_M0/GPIO2_B0_d, Y5 CIF_CLKO_M0/CLK_OUT_ETHERNET/GPIO2_B3_d, Y6 CIF_D5_M0/RMII_RXD0/GPIO2_A3_d, Y7 CIF_D7_M0/RMII_RXER/GPIO2_A5_d, Y8 CIF_D6_M0/RMII_RXD1/GPIO2_A4_d
part C pins: A1 VSS_1, A11 VSS_5, A21 VSS_2, AA1 VSS_4, AA3 VSS_98, AA21 VSS_3, B6 VSS_6, B9 VSS_7, C3 VSS_8, C5 VSS_9, C12 VSS_10, D3 VSS_11, D4 VSS_12, D7 VSS_13, E3 VSS_14, E4 VSS_15, E5 VSS_16, E6 VSS_17, E7 VSS_18, E8 VSS_19, E9 VSS_20, E10 VSS_21, E11 VSS_24, F2 VSS_22, F5 VSS_23, F14 VSS_25, F15 VSS_26, F16 VSS_27, G5 VSS_28, G7 VSS_29, G8 VSS_30, G11 VSS_31, G13 VSS_33, G14 VSS_34, G15 VSS_48, G16 VSS_47, H2 VSS_37, H3 VSS_38, H4 VSS_39, H5 VSS_40, H7 VSS_41, H8 VSS_42, H9 VSS_43, H10 VSS_44, H11 VSS_45, H12 VSS_46, H13 VSS_55, H17 VSS_57, HOLE1, HOLE2, HOLE3, HOLE4, J5 VSS_49, J8 VSS_50, J9 VSS_51, J10 VSS_52, J11 VSS_53, J12 VSS_54, J13 VSS_64, J17 VSS_56, K5 VSS_58, K8 VSS_59, K11 VSS_61, K12 VSS_63, K13 VSS_65, K17 VSS_67, K18 VSS_68, L3 VSS_70, L4 VSS_71, L5 VSS_72, L8 VSS_73, L12 VSS_77, L13 VSS_69, L14 VSS_66, L15 VSS_87, L16 VSS_88, L17 VSS_78, L18 VSS_79, M5 VSS_80, M8 VSS_81, M9 VSS_84, M10 VSS_85, M12 VSS_62, M13 VSS_60, M14 VSS_75, M15 VSS_82, M16 VSS_83, M17 VSS_86, N3 VSS_89, N5 VSS_90, N6 VSS_91, N7 VSS_92, N8 VSS_93, N9 VSS_96, N10 VSS_97, N14 VSS_74, N15 VSS_94, N16 VSS_95, P4 VSS_100, P5 VSS_101, P6 VSS_102, P7 VSS_103, P8 VSS_104, P9 VSS_105, P10 VSS_106, P11 VSS_107, P12 VSS_108, P13 VSS_109, P14 VSS_110, P15 VSS_112, P16 VSS_111, R5 VSS_113, R6 VSS_114, R7 VSS_115, R8 VSS_116, R9 VSS_117, R10 VSS_118, R11 VSS_119, R12 VSS_120, R13 VSS_121, R14 VSS_122, R15 VSS_123, R16 VSS_124, R17 VSS_125, T3 VSS_126, T4 VSS_127, T5 VSS_128, T6 VSS_129, T7 VSS_130, T8 VSS_131, T9 VSS_132, T10 VSS_133, T11 VSS_134, T12 VSS_36, T14 VSS_136, T15 VSS_137, T16 VSS_138, T17 VSS_139, T18 VSS_140, U5 VSS_141, U14 VSS_142, U15 VSS_143, U16 VSS_144, U17 VSS_145, U18 VSS_146, V2 VSS_147, V5 VSS_148, V16 VSS_149, V17 VSS_150, V18 VSS_151, V19 VSS_152, W3 VSS_32, W4 VSS_135, W11 VSS_35, W17 VSS_99, W18 VSS_76
part D pins: U8 MIPI_CSI_AVDD_1V0, U9 MIPI_CSI_D2P, U10 MIPI_CSI_CLKN, U11 MIPI_CSI_RBIAS, V8 MIPI_CSI_D2N, V9 MIPI_CSI_D3P, V10 MIPI_CSI_CLKP, V11 MIPI_CSI_D0N, W8 MIPI_CSI_D3N, W9 MIPI_CSI_D1N, W10 MIPI_CSI_D0P, Y9 MIPI_CSI_D1P
part E pins: AA10 USB_OTG_DM, AA11 USB_RBIAS, AA12 USB_HOST_DP, U12 USB_AVDD_1V0, V13 USB_AVDD_1V8, W13 USB_AVDD_3V3, Y10 USB_OTG_DP, Y11 USB_ID, Y12 USB_HOST_DM, Y13 USB_VBUS
part F pins: U13 ADC_AVDD_1V8, V14 ADC_IN0, V15 ADC_IN2, W14 ADC_IN1
part G pins: AA13 I2S1_2CH_SDI/PDM_SDIO_M1/GPIO2_C5_d, AA14 I2S1_2CH_SCLK/GPIO2_C2_d, AA15 I2S1_2CH_LRCK_TXRX/GPIO2_C1_d, W15 PDM_CLK0/GPIO2_C6_d, W16 VCCIO5, Y14 I2S1_2CH_MCLK/GPIO2_C3_d, Y15 I2S1_2CH_SDO/GPIO2_C4_d
part H pins: AA16 SDMMC0_D3/UART4_TX/JTAG_TMS/GPIO1_D5_u, AA17 SDMMC0_D0/UART2_TX_M0/GPIO1_D2_u, AA18 SDMMC0_D1/UART2_RX_M0/GPIO1_D3_u, AA19 SDMMC0_D2/UART4_RX/JTAG_TCK/GPIO1_D4_u, Y16 SDMMC0_CMD/UART4_RTS/GPIO1_D7_u, Y17 SDMMC0_CLKO/UART4_CTS/TEST_CLKO/GPIO1_D6_d, Y18 VCCIO2
part I pins: AA20 SDMMC0_DETN/GPIO0_A3_u, M18 PLL_AVDD_1V8, N17 AVSS, N18 PLL_AVDD_1V0, P17 PMU_VDD_1V0, T13 OTP_VCC_1V8, T21 GPIO0_A5_u, U19 PMUIO1, U20 OSC_24M_IN, U21 OSC_24M_OUT, V20 PMIC_SLEEP/GPIO0_A4_d, V21 GPIO0_A2_d, W19 NPOR, W20 TEST, W21 TSADC_SHUT/GPIO0_A6_z, Y19 GPIO0_A7_u, Y20 GPIO0_A1_d, Y21 REF_CLKO/GPIO0_A0_d
part J pins: M19 PWM0/OTG_DRV/GPIO0_B7_d, N19 UART0_RTS/TEST_CLK1/GPIO0_B5_u, N20 UART0_TX/GPIO0_B2_d, N21 UART3_TX_M0/PWM1/GPIO0_C0_d, P18 UART0_RX/GPIO0_B3_d, P19 UART3_RX_M0/PWM3/GPIO0_C1_d, P20 CLKIO_32K/GPIO0_C4_z, P21 I2C0_SDA/GPIO0_B1_u, R18 UART0_CTS/PMU_DEBUG_SOUT/PMU_DEBUG2/GPIO0_B4_u, R19 FLASH_VOLSEL/GPIO0_B6_u, R20 I2C1_SDA/UART3_RTS_M0/GPIO0_C3_d, R21 I2C0_SCL/GPIO0_B0_u, T19 OSC_VCCIO/PMUIO2, T20 I2C1_SCL/UART3_CTS_M0/PMU_DEBUG5/GPIO0_C2_d
part K pins: H19 SDMMC1_CMD/GPIO1_C4_u, J19 SDMMC1_D3/GPIO1_D1_u, J20 UART1_RX/GPIO1_C0_u, K19 VCCIO1, K20 UART1_TX/GPIO1_C1_u, K21 UART1_CTS/GPIO1_C2_u, L19 SDMMC1_D1/GPIO1_C7_u, L20 SDMMC1_D0/GPIO1_C6_u, L21 UART1_RTS/GPIO1_C3_u, M20 SDMMC1_CLK/GPIO1_C5_d, M21 SDMMC1_D2/GPIO1_D0_u
part L pins: B21 FLASH_D7/EMMC_D7/GPIO1_A7_u, C20 FLASH_D6/EMMC_D6/GPIO1_A6_u, C21 FLASH_D2/EMMC_D2/SFC_SIO2/GPIO1_A2_u, D20 FLASH_D5/EMMC_D5/GPIO1_A5_u, D21 FLASH_D1/EMMC_D1/SFC_SIO1/GPIO1_A1_u, E18 FLASH_ALE/EMMC_RSTN/GPIO1_B3_d, E19 FLASH_D3/EMMC_D3/SFC_SIO3/GPIO1_A3_u, E20 FLASH_D0/EMMC_D0/SFC_SIO0/GPIO1_A0_u, E21 FLASH_D4/EMMC_D4/SFC_CSN0/GPIO1_A4_u, F19 FLASH_CS0/GPIO1_B0_u, G19 FLASH_DQS/EMMC_CMD/GPIO1_B2_u, G20 FLASH_CS1/UART3_TX_M1/SPI0_CSN/GPIO1_B6_u, G21 FLASH_CLE/UART3_CTS_M1/SPI0_TXD/I2C3_SDA/GPIO1_B4_d, H18 FLASH_RDY/EMMC_CLKOUT/SFC_CLK/GPIO1_B1_u, H20 FLASH_WRN/UART3_RTS_M1/SPI0_RXD/I2C3_SCL/GPIO1_B5_u, H21 FLASH_RDN/UART3_RX_M1/SPI0_CLK/GPIO1_B7_u, J18 VCCIO6
part M pins: A12 LVDS_TX3P/MIPI_TX_D3P/LCDC_DEN_M1, A14 LVDS_CLKP/MIPI_TX_CLKP/LCDC_D3_M1, A16 LVDS_TX1P/MIPI_TX_D1P/LCDC_D10_M1, A18 LCDC_D17/I2S0_8CH_SDI0/PWM7/TDM_SDI/TDM_SDI/GPIO3_C5_d, A20 LCDC_D12/I2S0_8CH_SDO1/GPIO3_C0_d, B12 LVDS_TX3N/MIPI_TX_D3N/LCDC_HSYNC_M1, B13 LVDS_TX2P/MIPI_TX_D2P/LCDC_D5_M1, B14 LVDS_CLKN/MIPI_TX_CLKN/LCDC_D4_M1, B15 LVDS_TX1N/MIPI_TX_D1N/LCDC_D1_M1, B16 LVDS_TX0N/MIPI_TX_D0N/LCDC_D11_M1, B17 LVDS_TX0P/MIPI_TX_D0P/LCDC_D8_M1, B18 LCDC_D6/SPI1_CSN1/GPIO3_B2_d, B19 LCDC_D15/I2S0_8CH_SCLKTX/PWM5/TDM_SCLK/GPIO3_C3_d, B20 LCDC_D13/I2S0_8CH_MCLK/GPIO3_C1_d, C13 LVDS_TX2N/MIPI_TX_D2N/LCDC_VSYNC_M1, C14 LCDC_D2/GPIO3_A6_d, C15 LCDC_D0/GPIO3_A4_d, C16 LCDC_D9_M0/I2S0_8CH_LRCKRX/GPIO3_B5_d, C17 LCDC_D7/I2S0_8CH_SDI1/GPIO3_B3_d, C18 LCDC_D16/I2S0_8CH_SDO0/PWM6/TDM_SDO/TDM_SDO/GPIO3_C4_d, C19 LCDC_D14/I2S0_8CH_LRCKTX/PWM4/TDM_LRCK/TDM_FSYNC/GPIO3_C2_d, D12 VCCIO4, D13 LCDC_D18/PDM_CLK0_M0/CIF_D10_M1/GPIO3_C6_d, D14 LCDC_D19/PDM_CLK1/CIF_D11_M1/GPIO3_C7_d, D15 LCDC_D20/PDM_SDI1/CIF_CLKOUT_M1/GPIO3_D0_d, D16 LCDC_D21/PDM_SDI2/CIF_VSYNC_M1/ISP_PRELIGHT_TRIG/GPIO3_D1_d, D17 LCDC_D22/PDM_SDI3/CIF_HREF_M1/ISP_FLASH_TRIGOUT/GPIO3_D2_d, D18 LCDC_D23/PDM_SDI0_M0/CIF_CLKIN_M1/ISP_FLASH_TRIGIN/GPIO3_D3_d, D19 LCDC_CLK/GPIO3_A0_d, E12 MIPI_DSI_VCCA_3V3, E13 LCDC_HSYNC_M0/I2S2_2CH_MCLK/CIF_D0_M1/UART5_RX/GPIO3_A1_d, E14 LCDC_DEN_M0/I2S2_2CH_LRCK/CIF_D2_M1/UART5_CTS/GPIO3_A3_d, E15 LCDC_D1_M0/I2S2_2CH_SDI/CIF_D3_M1/UART5_RTS/GPIO3_A5_d, E16 LCDC_D3_M0/I2S2_2CH_SDO/CIF_D4_M1/GPIO3_A7_d, E17 LCDC_D4_M0/I2S0_8CH_SDI3/CIF_D5_M1/GPIO3_B0_d, F11 MIPI_DSI_VCCA_1V0, F12 MIPI_DSI_VCCA_1V8, F13 LCDC_VSYNC_M0/I2S2_2CH_SCLK/CIF_D1_M1/UART5_TX/GPIO3_A2_d, F17 LCDC_D5_M0/I2S0_8CH_SDI2/CIF_D6_M1/SPI1_CSN0/GPIO3_B1_d, F18 LCDC_D8_M0/I2S0_8CH_SCLKRX/CIF_D7_M1/SPI1_MOSI/GPIO3_B4_d, G12 LVDS_RBIAS, G17 LCDC_D11_M0/I2S0_8CH_SDO2/CIF_D9_M1/SPI1_CLK/GPIO3_B7_d, G18 LCDC_D10_M0/I2S0_8CH_SDO3/CIF_D8_M1/SPI1_MISO/GPIO3_B6_d
part N pins: H14 VDD_CPU_1, H15 VDD_CPU_2, H16 VDD_CPU_3, J14 VDD_CPU_4, J15 VDD_CPU_5, J16 VDD_CPU_6, K9 VDD_LOGIC_1, K10 VDD_LOGIC_3, K14 VDD_CPU_7, K15 VDD_CPU_8, K16 VDD_CPU_9, L9 VDD_LOGIC_2, L10 VDD_LOGIC_4, L11 VDD_LOGIC_9, M11 VDD_LOGIC_8, N11 VDD_LOGIC_5, N12 VDD_LOGIC_7, N13 VDD_LOGIC_6
part J text: FLASH_VOLSEL  1: VCCIO_FLASH=1.8V / 0: VCCIO_FLASH=3.3V

## R-PACK4_3
designator RN?
pins: 1 R1, 2 R4, 3 R3, 4 R2

## R_0
designator R?
pins: 1, 2

## R_2
designator R?
pins: 1, 2

## radxa_gong
designator *  Page Count: 1  Page Size: A  (graphical)
Page Number: 1; RevCode: ?; Page Create Date: March  8, 1995
text: Size; Title:; REV; Page Name:; Date:; Sheet; of

## RDA5995_0
designator U?
pins: 1 VBAT1, 2 SW_GND, 3 SW_BUCK, 4 VA18, 5 LX_BUCK, 6 VD11, 7 GPIO9, 8 V_CORE, 9 USB_DN, 10 USB_DP, 11 GPIO6, 12 GPIO7, 13 CLK_REQ, 14 GPIO5, 15 GPIO4, 16 UART_TX, 17 PDN, 18 AVDD33_PAD, 19 AVDD33_PA, 20 RFIO, 21 GPIO1, 22 GPIO2, 23 GPIO3, 24 UART_RX, 25 AVDD_RF, 26 AVDD_CLK, 27 XIN, 28 XTAL, 29 GPIO13, 30 GPIO12, 31 SDIO_INIT, 32 SDIO_D2, 33 SDIO_D0, 34 SDIO_CMD, 35 SDIO_D3, 36 SDIO_CLK, 37 SDIO_D1, 38 VIO, 39 LDO33, 40 VBAT, 41 EPAD

## RESISTOR
designator R?
pins: 1, 2

## RESISTOR_0
designator R?
pins: 1, 2

## RESISTOR_1
designator R?
pins: 1, 2

## RESISTOR_1_Dup1
designator R?
pins: 1, 2

## RESISTOR_2
designator R?
footprint R0402
pins: 1, 2

## RESISTOR_3
designator R?
footprint R0402
pins: 1, 2

## RESISTOR_Dup1
designator R?
footprint R0402
pins: 1, 2

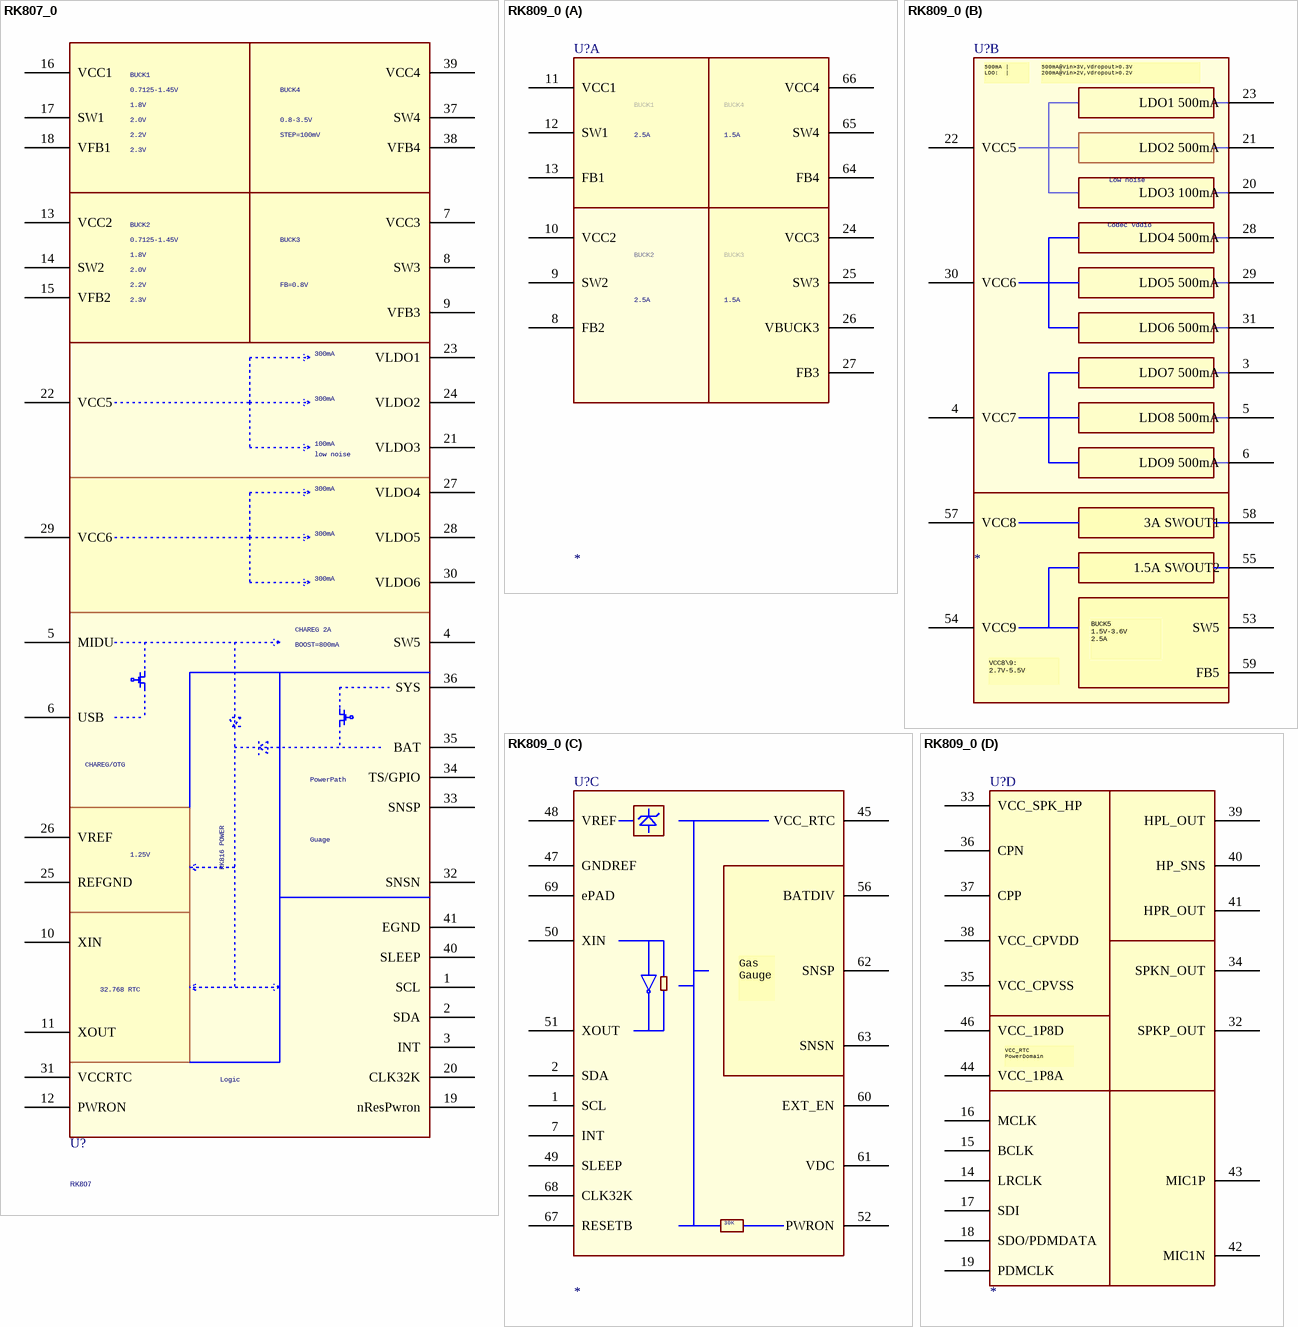
[diagram p257: symbols RK807_0 to RK809_0]

## RK807_0
designator U?, comment RK807
footprint QFN40_5X5
pins: 1 SCL, 2 SDA, 3 INT, 4 SW5, 5 MIDU, 6 USB, 7 VCC3, 8 SW3, 9 VFB3, 10 XIN, 11 XOUT, 12 PWRON, 13 VCC2, 14 SW2, 15 VFB2, 16 VCC1, 17 SW1, 18 VFB1, 19 nResPwron, 20 CLK32K, 21 VLDO3, 22 VCC5, 23 VLDO1, 24 VLDO2, 25 REFGND, 26 VREF, 27 VLDO4, 28 VLDO5, 29 VCC6, 30 VLDO6, 31 VCCRTC, 32 SNSN, 33 SNSP, 34 TS/GPIO, 35 BAT, 36 SYS, 37 SW4, 38 VFB4, 39 VCC4, 40 SLEEP, 41 EGND
text: BUCK1; 0.7125-1.45V; BUCK4; 1.8V; 2.0V; 0.8-3.5V; 2.2V; STEP=100mV; 2.3V; BUCK2; BUCK3; FB=0.8V; 300mA; 100mA; low noise; CHAREG 2A; BOOST=800mA; CHAREG/OTG; PowerPath; Guage; 1.25V; RK816 POWER; 32.768 RTC; Logic

## RK809_0
designator U?
footprint QFN68_7R00X7R00X0R80_T
part A pins: 8 FB2, 9 SW2, 10 VCC2, 11 VCC1, 12 SW1, 13 FB1, 24 VCC3, 25 SW3, 26 VBUCK3, 27 FB3, 64 FB4, 65 SW4, 66 VCC4
part B pins: 3 LDO7 500mA, 4 VCC7, 5 LDO8 500mA, 6 LDO9 500mA, 20 LDO3 100mA, 21 LDO2 500mA, 22 VCC5, 23 LDO1 500mA, 28 LDO4 500mA, 29 LDO5 500mA, 30 VCC6, 31 LDO6 500mA, 53 SW5, 54 VCC9, 55 1.5A SWOUT2, 57 VCC8, 58 3A SWOUT1, 59 FB5
part C pins: 1 SCL, 2 SDA, 7 INT, 45 VCC_RTC, 47 GNDREF, 48 VREF, 49 SLEEP, 50 XIN, 51 XOUT, 52 PWRON, 56 BATDIV, 60 EXT_EN, 61 VDC, 62 SNSP, 63 SNSN, 67 RESETB, 68 CLK32K, 69 ePAD
part D pins: 14 LRCLK, 15 BCLK, 16 MCLK, 17 SDI, 18 SDO/PDMDATA, 19 PDMCLK, 32 SPKP_OUT, 33 VCC_SPK_HP, 34 SPKN_OUT, 35 VCC_CPVSS, 36 CPN, 37 CPP, 38 VCC_CPVDD, 39 HPL_OUT, 40 HP_SNS, 41 HPR_OUT, 42 MIC1N, 43 MIC1P, 44 VCC_1P8A, 46 VCC_1P8D
part A text: BUCK1; BUCK4; 2.5A; 1.5A; BUCK2; BUCK3
part B text: 500mA | / LDO:  |; 500mA@Vin>3V,Vdropout>0.3V / 200mA@Vin>2V,Vdropout>0.2V /; Low noise; Codec vddio; BUCK5 / 1.5V-3.6V / 2.5A; VCC8\9: / 2.7V-5.5V
part C text: Gas / Gauge; 30K
part D text: VCC_RTC / PowerDomain

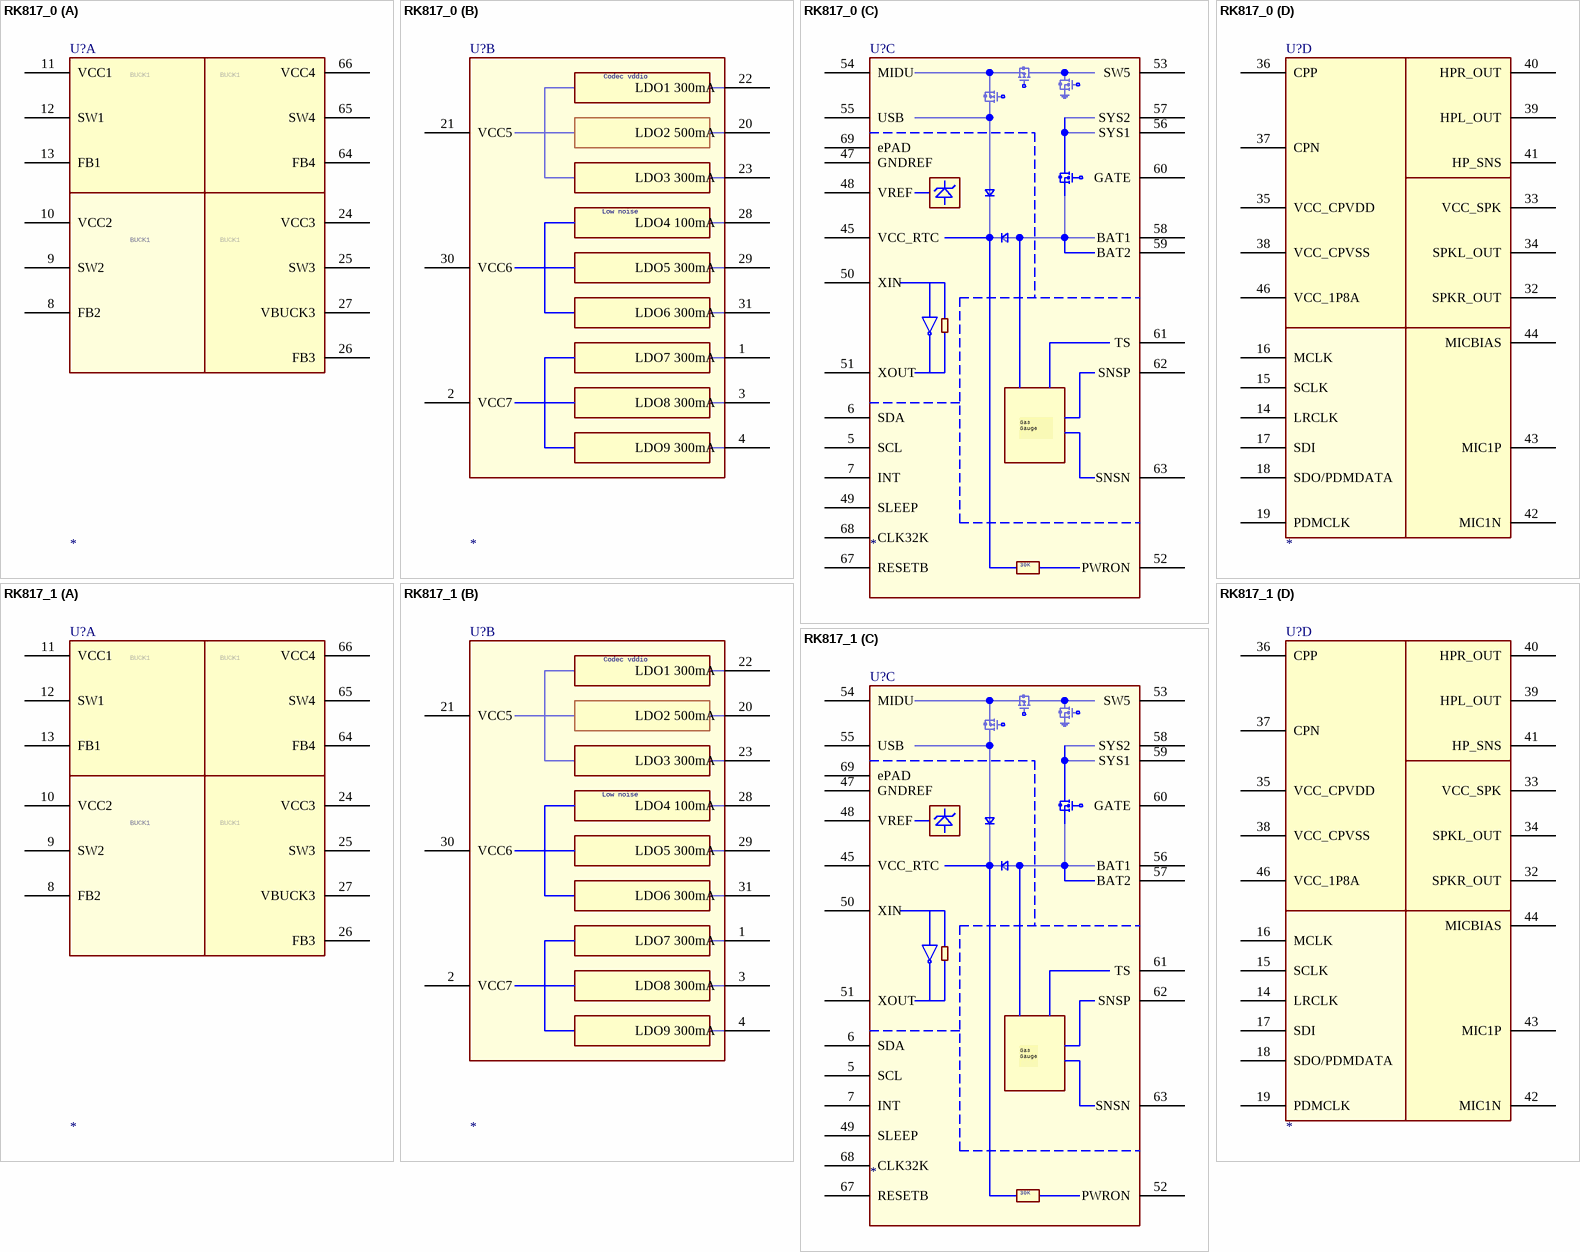
[diagram p258: symbols RK817_0 to RK817_1]

## RK817_0
designator U?
footprint QFN68_7R00X7R00X0R80_T
part A pins: 8 FB2, 9 SW2, 10 VCC2, 11 VCC1, 12 SW1, 13 FB1, 24 VCC3, 25 SW3, 26 FB3, 27 VBUCK3, 64 FB4, 65 SW4, 66 VCC4
part B pins: 1 LDO7 300mA, 2 VCC7, 3 LDO8 300mA, 4 LDO9 300mA, 20 LDO2 500mA, 21 VCC5, 22 LDO1 300mA, 23 LDO3 300mA, 28 LDO4 100mA, 29 LDO5 300mA, 30 VCC6, 31 LDO6 300mA
part C pins: 5 SCL, 6 SDA, 7 INT, 45 VCC_RTC, 47 GNDREF, 48 VREF, 49 SLEEP, 50 XIN, 51 XOUT, 52 PWRON, 53 SW5, 54 MIDU, 55 USB, 56 SYS1, 57 SYS2, 58 BAT1, 59 BAT2, 60 GATE, 61 TS, 62 SNSP, 63 SNSN, 67 RESETB, 68 CLK32K, 69 ePAD
part D pins: 14 LRCLK, 15 SCLK, 16 MCLK, 17 SDI, 18 SDO/PDMDATA, 19 PDMCLK, 32 SPKR_OUT, 33 VCC_SPK, 34 SPKL_OUT, 35 VCC_CPVDD, 36 CPP, 37 CPN, 38 VCC_CPVSS, 39 HPL_OUT, 40 HPR_OUT, 41 HP_SNS, 42 MIC1N, 43 MIC1P, 44 MICBIAS, 46 VCC_1P8A
part A text: BUCK1
part B text: Codec vddio; Low noise
part C text: Gas / Gauge; 30K

## RK817_1
designator U?
footprint QFN68_7R00X7R00X0R80_T
part A pins: 8 FB2, 9 SW2, 10 VCC2, 11 VCC1, 12 SW1, 13 FB1, 24 VCC3, 25 SW3, 26 FB3, 27 VBUCK3, 64 FB4, 65 SW4, 66 VCC4
part B pins: 1 LDO7 300mA, 2 VCC7, 3 LDO8 300mA, 4 LDO9 300mA, 20 LDO2 500mA, 21 VCC5, 22 LDO1 300mA, 23 LDO3 300mA, 28 LDO4 100mA, 29 LDO5 300mA, 30 VCC6, 31 LDO6 300mA
part C pins: 5 SCL, 6 SDA, 7 INT, 45 VCC_RTC, 47 GNDREF, 48 VREF, 49 SLEEP, 50 XIN, 51 XOUT, 52 PWRON, 53 SW5, 54 MIDU, 55 USB, 56 BAT1, 57 BAT2, 58 SYS2, 59 SYS1, 60 GATE, 61 TS, 62 SNSP, 63 SNSN, 67 RESETB, 68 CLK32K, 69 ePAD
part D pins: 14 LRCLK, 15 SCLK, 16 MCLK, 17 SDI, 18 SDO/PDMDATA, 19 PDMCLK, 32 SPKR_OUT, 33 VCC_SPK, 34 SPKL_OUT, 35 VCC_CPVDD, 36 CPP, 37 CPN, 38 VCC_CPVSS, 39 HPL_OUT, 40 HPR_OUT, 41 HP_SNS, 42 MIC1N, 43 MIC1P, 44 MICBIAS, 46 VCC_1P8A
part A text: BUCK1
part B text: Codec vddio; Low noise
part C text: Gas / Gauge; 30K

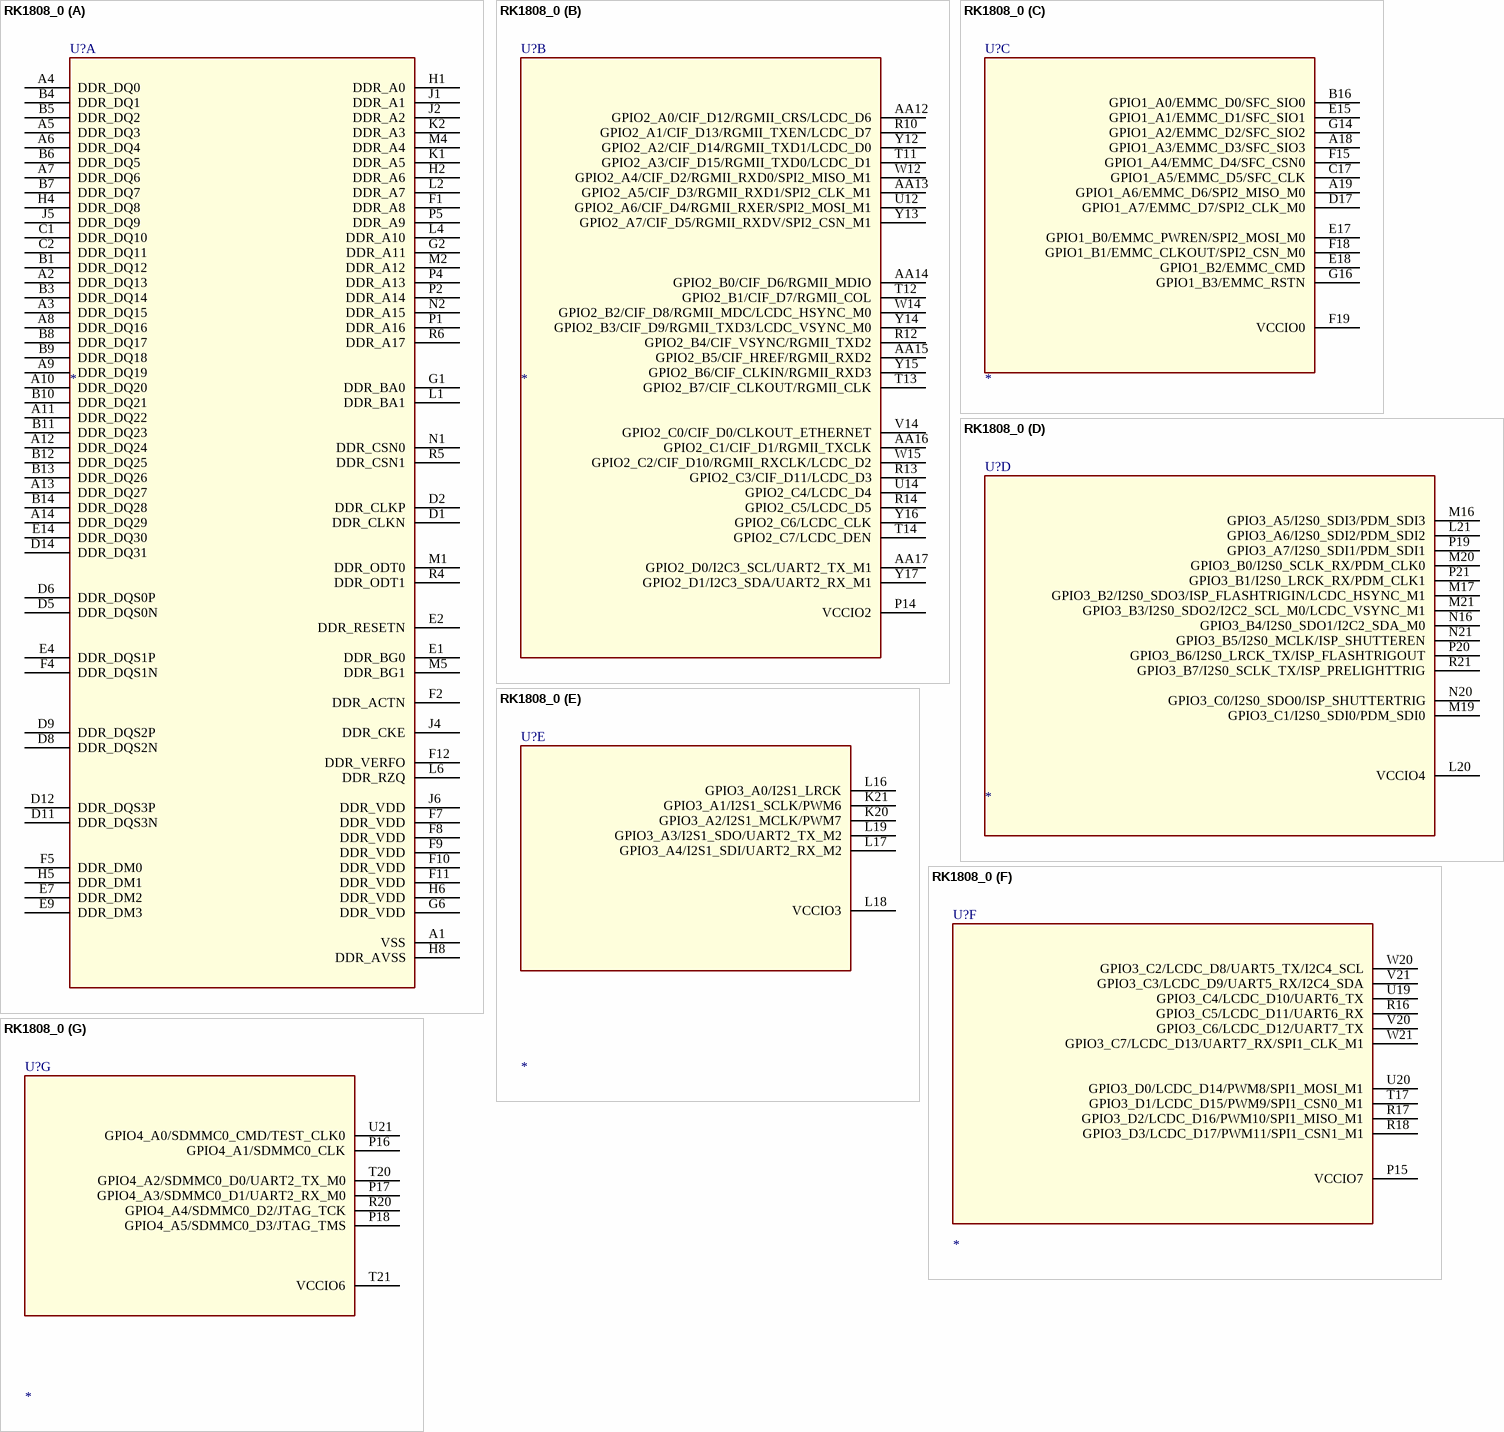
[diagram p259: symbol RK1808_0]

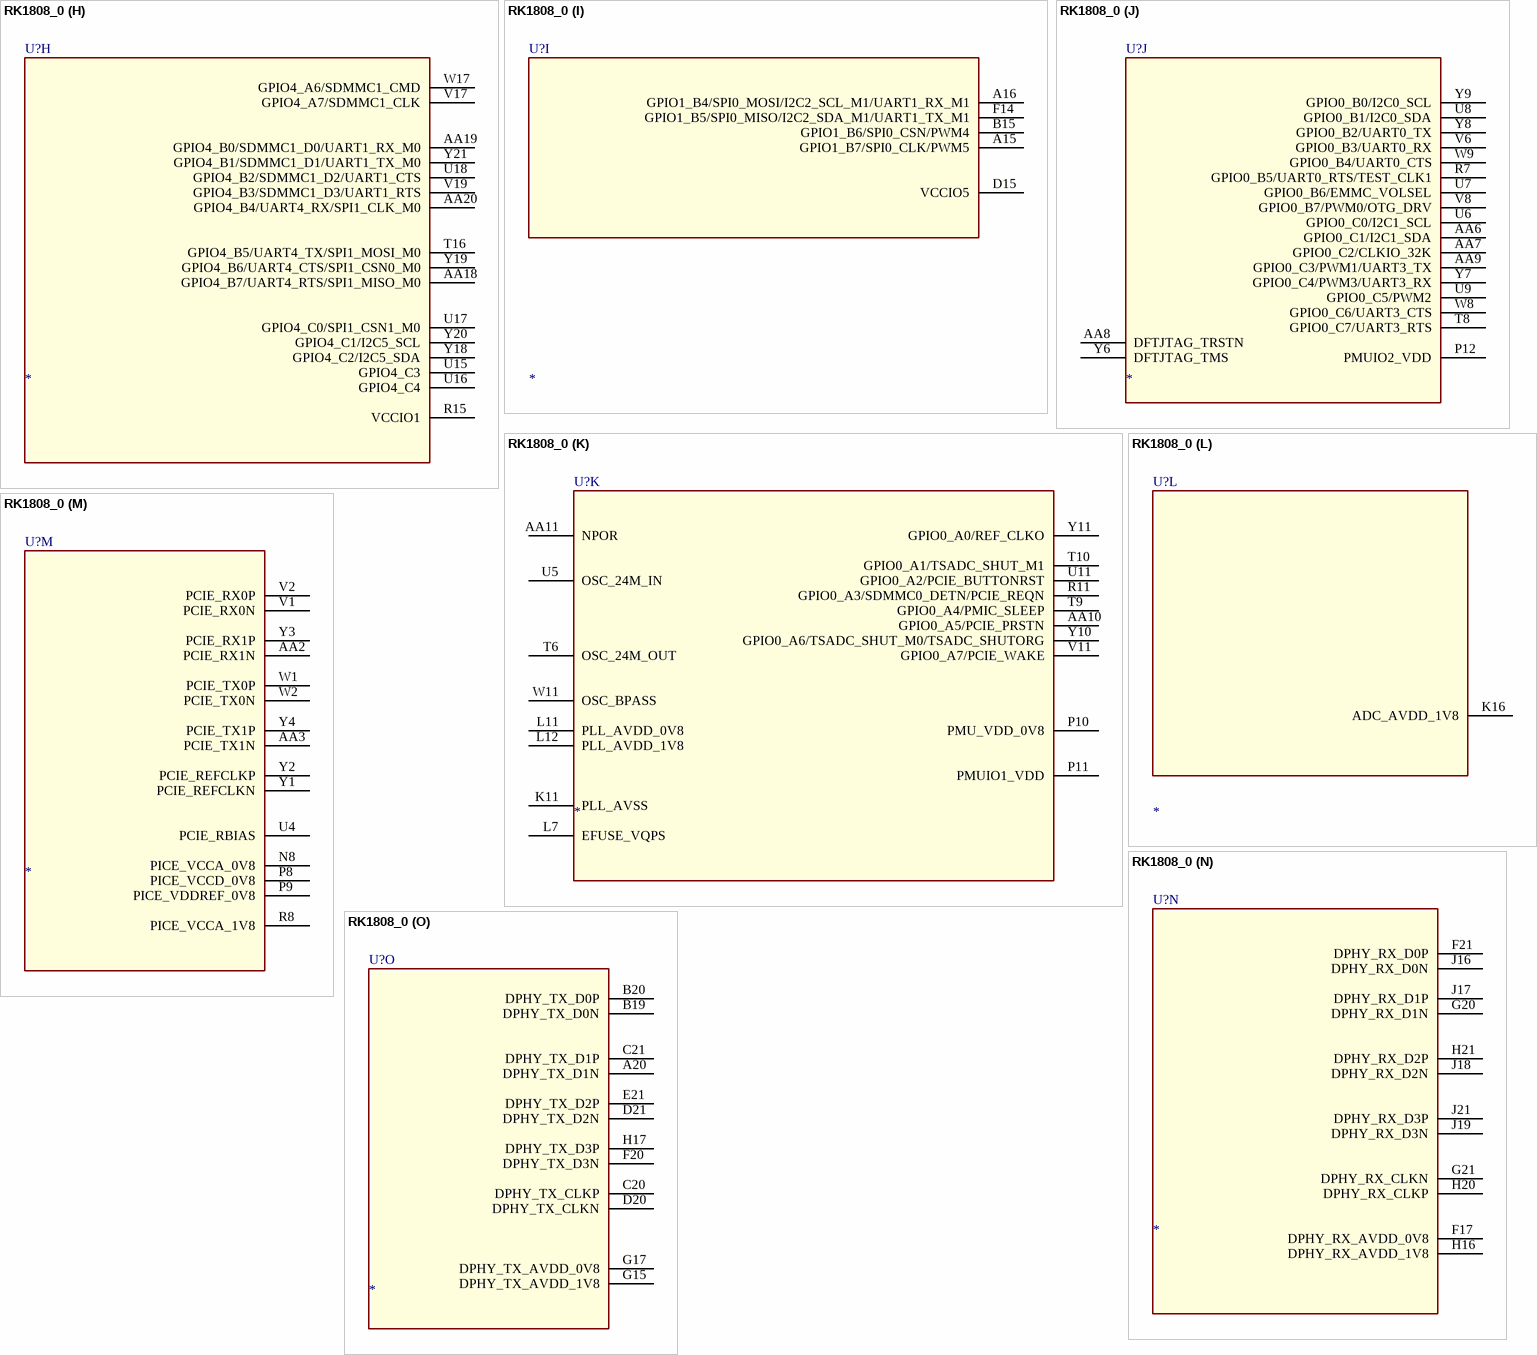
[diagram p260: symbol RK1808_0]

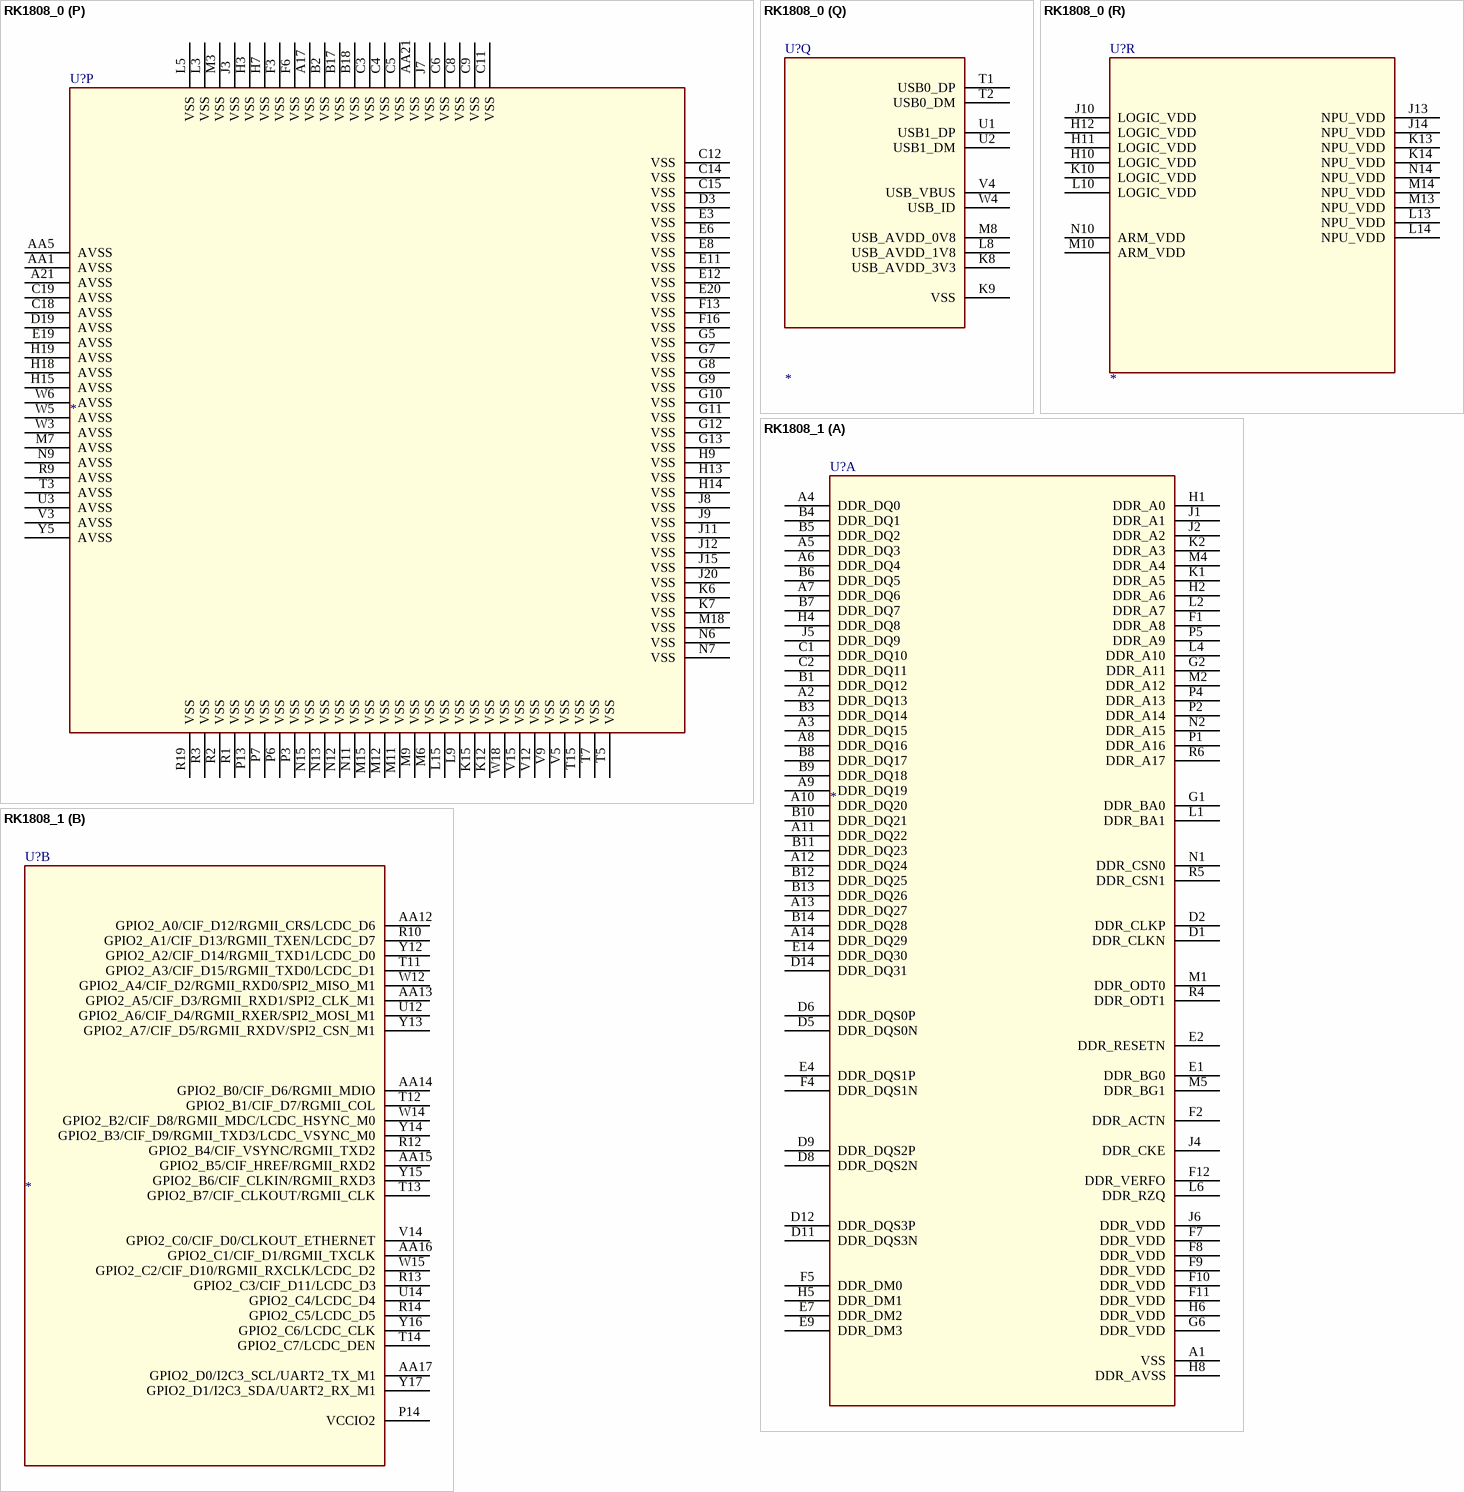
[diagram p261: symbols RK1808_0 to RK1808_1]

## RK1808_0
designator U?
SWAP_INFO: (S1+S2+S3+S4+S5+S6+S7+S8+S9+S10+S11+S12+S13+S14+S15+S16+S17+S18); SPLIT_INST: TRUE
part A pins: A1 VSS, A2 DDR_DQ13, A3 DDR_DQ15, A4 DDR_DQ0, A5 DDR_DQ3, A6 DDR_DQ4, A7 DDR_DQ6, A8 DDR_DQ16, A9 DDR_DQ19, A10 DDR_DQ20, A11 DDR_DQ22, A12 DDR_DQ24, A13 DDR_DQ27, A14 DDR_DQ29, B1 DDR_DQ12, B3 DDR_DQ14, B4 DDR_DQ1, B5 DDR_DQ2, B6 DDR_DQ5, B7 DDR_DQ7, B8 DDR_DQ17, B9 DDR_DQ18, B10 DDR_DQ21, B11 DDR_DQ23, B12 DDR_DQ25, B13 DDR_DQ26, B14 DDR_DQ28, C1 DDR_DQ10, C2 DDR_DQ11, D1 DDR_CLKN, D2 DDR_CLKP, D5 DDR_DQS0N, D6 DDR_DQS0P, D8 DDR_DQS2N, D9 DDR_DQS2P, D11 DDR_DQS3N, D12 DDR_DQS3P, D14 DDR_DQ31, E1 DDR_BG0, E2 DDR_RESETN, E4 DDR_DQS1P, E7 DDR_DM2, E9 DDR_DM3, E14 DDR_DQ30, F1 DDR_A8, F2 DDR_ACTN, F4 DDR_DQS1N, F5 DDR_DM0, F7 DDR_VDD, F8 DDR_VDD, F9 DDR_VDD, F10 DDR_VDD, F11 DDR_VDD, F12 DDR_VERFO, G1 DDR_BA0, G2 DDR_A11, G6 DDR_VDD, H1 DDR_A0, H2 DDR_A6, H4 DDR_DQ8, H5 DDR_DM1, H6 DDR_VDD, H8 DDR_AVSS, J1 DDR_A1, J2 DDR_A2, J4 DDR_CKE, J5 DDR_DQ9, J6 DDR_VDD, K1 DDR_A5, K2 DDR_A3, L1 DDR_BA1, L2 DDR_A7, L4 DDR_A10, L6 DDR_RZQ, M1 DDR_ODT0, M2 DDR_A12, M4 DDR_A4, M5 DDR_BG1, N1 DDR_CSN0, N2 DDR_A15, P1 DDR_A16, P2 DDR_A14, P4 DDR_A13, P5 DDR_A9, R4 DDR_ODT1, R5 DDR_CSN1, R6 DDR_A17
part B pins: AA12 GPIO2_A0/CIF_D12/RGMII_CRS/LCDC_D6, AA13 GPIO2_A5/CIF_D3/RGMII_RXD1/SPI2_CLK_M1, AA14 GPIO2_B0/CIF_D6/RGMII_MDIO, AA15 GPIO2_B5/CIF_HREF/RGMII_RXD2, AA16 GPIO2_C1/CIF_D1/RGMII_TXCLK, AA17 GPIO2_D0/I2C3_SCL/UART2_TX_M1, P14 VCCIO2, R10 GPIO2_A1/CIF_D13/RGMII_TXEN/LCDC_D7, R12 GPIO2_B4/CIF_VSYNC/RGMII_TXD2, R13 GPIO2_C3/CIF_D11/LCDC_D3, R14 GPIO2_C5/LCDC_D5, T11 GPIO2_A3/CIF_D15/RGMII_TXD0/LCDC_D1, T12 GPIO2_B1/CIF_D7/RGMII_COL, T13 GPIO2_B7/CIF_CLKOUT/RGMII_CLK, T14 GPIO2_C7/LCDC_DEN, U12 GPIO2_A6/CIF_D4/RGMII_RXER/SPI2_MOSI_M1, U14 GPIO2_C4/LCDC_D4, V14 GPIO2_C0/CIF_D0/CLKOUT_ETHERNET, W12 GPIO2_A4/CIF_D2/RGMII_RXD0/SPI2_MISO_M1, W14 GPIO2_B2/CIF_D8/RGMII_MDC/LCDC_HSYNC_M0, W15 GPIO2_C2/CIF_D10/RGMII_RXCLK/LCDC_D2, Y12 GPIO2_A2/CIF_D14/RGMII_TXD1/LCDC_D0, Y13 GPIO2_A7/CIF_D5/RGMII_RXDV/SPI2_CSN_M1, Y14 GPIO2_B3/CIF_D9/RGMII_TXD3/LCDC_VSYNC_M0, Y15 GPIO2_B6/CIF_CLKIN/RGMII_RXD3, Y16 GPIO2_C6/LCDC_CLK, Y17 GPIO2_D1/I2C3_SDA/UART2_RX_M1
part C pins: A18 GPIO1_A3/EMMC_D3/SFC_SIO3, A19 GPIO1_A6/EMMC_D6/SPI2_MISO_M0, B16 GPIO1_A0/EMMC_D0/SFC_SIO0, C17 GPIO1_A5/EMMC_D5/SFC_CLK, D17 GPIO1_A7/EMMC_D7/SPI2_CLK_M0, E15 GPIO1_A1/EMMC_D1/SFC_SIO1, E17 GPIO1_B0/EMMC_PWREN/SPI2_MOSI_M0, E18 GPIO1_B2/EMMC_CMD, F15 GPIO1_A4/EMMC_D4/SFC_CSN0, F18 GPIO1_B1/EMMC_CLKOUT/SPI2_CSN_M0, F19 VCCIO0, G14 GPIO1_A2/EMMC_D2/SFC_SIO2, G16 GPIO1_B3/EMMC_RSTN
part D pins: L20 VCCIO4, L21 GPIO3_A6/I2S0_SDI2/PDM_SDI2, M16 GPIO3_A5/I2S0_SDI3/PDM_SDI3, M17 GPIO3_B2/I2S0_SDO3/ISP_FLASHTRIGIN/LCDC_HSYNC_M1, M19 GPIO3_C1/I2S0_SDI0/PDM_SDI0, M20 GPIO3_B0/I2S0_SCLK_RX/PDM_CLK0, M21 GPIO3_B3/I2S0_SDO2/I2C2_SCL_M0/LCDC_VSYNC_M1, N16 GPIO3_B4/I2S0_SDO1/I2C2_SDA_M0, N20 GPIO3_C0/I2S0_SDO0/ISP_SHUTTERTRIG, N21 GPIO3_B5/I2S0_MCLK/ISP_SHUTTEREN, P19 GPIO3_A7/I2S0_SDI1/PDM_SDI1, P20 GPIO3_B6/I2S0_LRCK_TX/ISP_FLASHTRIGOUT, P21 GPIO3_B1/I2S0_LRCK_RX/PDM_CLK1, R21 GPIO3_B7/I2S0_SCLK_TX/ISP_PRELIGHTTRIG
part E pins: K20 GPIO3_A2/I2S1_MCLK/PWM7, K21 GPIO3_A1/I2S1_SCLK/PWM6, L16 GPIO3_A0/I2S1_LRCK, L17 GPIO3_A4/I2S1_SDI/UART2_RX_M2, L18 VCCIO3, L19 GPIO3_A3/I2S1_SDO/UART2_TX_M2
part F pins: P15 VCCIO7, R16 GPIO3_C5/LCDC_D11/UART6_RX, R17 GPIO3_D2/LCDC_D16/PWM10/SPI1_MISO_M1, R18 GPIO3_D3/LCDC_D17/PWM11/SPI1_CSN1_M1, T17 GPIO3_D1/LCDC_D15/PWM9/SPI1_CSN0_M1, U19 GPIO3_C4/LCDC_D10/UART6_TX, U20 GPIO3_D0/LCDC_D14/PWM8/SPI1_MOSI_M1, V20 GPIO3_C6/LCDC_D12/UART7_TX, V21 GPIO3_C3/LCDC_D9/UART5_RX/I2C4_SDA, W20 GPIO3_C2/LCDC_D8/UART5_TX/I2C4_SCL, W21 GPIO3_C7/LCDC_D13/UART7_RX/SPI1_CLK_M1
part G pins: P16 GPIO4_A1/SDMMC0_CLK, P17 GPIO4_A3/SDMMC0_D1/UART2_RX_M0, P18 GPIO4_A5/SDMMC0_D3/JTAG_TMS, R20 GPIO4_A4/SDMMC0_D2/JTAG_TCK, T20 GPIO4_A2/SDMMC0_D0/UART2_TX_M0, T21 VCCIO6, U21 GPIO4_A0/SDMMC0_CMD/TEST_CLK0
part H pins: AA18 GPIO4_B7/UART4_RTS/SPI1_MISO_M0, AA19 GPIO4_B0/SDMMC1_D0/UART1_RX_M0, AA20 GPIO4_B4/UART4_RX/SPI1_CLK_M0, R15 VCCIO1, T16 GPIO4_B5/UART4_TX/SPI1_MOSI_M0, U15 GPIO4_C3, U16 GPIO4_C4, U17 GPIO4_C0/SPI1_CSN1_M0, U18 GPIO4_B2/SDMMC1_D2/UART1_CTS, V17 GPIO4_A7/SDMMC1_CLK, V19 GPIO4_B3/SDMMC1_D3/UART1_RTS, W17 GPIO4_A6/SDMMC1_CMD, Y18 GPIO4_C2/I2C5_SDA, Y19 GPIO4_B6/UART4_CTS/SPI1_CSN0_M0, Y20 GPIO4_C1/I2C5_SCL, Y21 GPIO4_B1/SDMMC1_D1/UART1_TX_M0
part I pins: A15 GPIO1_B7/SPI0_CLK/PWM5, A16 GPIO1_B4/SPI0_MOSI/I2C2_SCL_M1/UART1_RX_M1, B15 GPIO1_B6/SPI0_CSN/PWM4, D15 VCCIO5, F14 GPIO1_B5/SPI0_MISO/I2C2_SDA_M1/UART1_TX_M1
part J pins: AA6 GPIO0_C1/I2C1_SDA, AA7 GPIO0_C2/CLKIO_32K, AA8 DFTJTAG_TRSTN, AA9 GPIO0_C3/PWM1/UART3_TX, P12 PMUIO2_VDD, R7 GPIO0_B5/UART0_RTS/TEST_CLK1, T8 GPIO0_C7/UART3_RTS, U6 GPIO0_C0/I2C1_SCL, U7 GPIO0_B6/EMMC_VOLSEL, U8 GPIO0_B1/I2C0_SDA, U9 GPIO0_C5/PWM2, V6 GPIO0_B3/UART0_RX, V8 GPIO0_B7/PWM0/OTG_DRV, W8 GPIO0_C6/UART3_CTS, W9 GPIO0_B4/UART0_CTS, Y6 DFTJTAG_TMS, Y7 GPIO0_C4/PWM3/UART3_RX, Y8 GPIO0_B2/UART0_TX, Y9 GPIO0_B0/I2C0_SCL
part K pins: AA10 GPIO0_A5/PCIE_PRSTN, AA11 NPOR, K11 PLL_AVSS, L7 EFUSE_VQPS, L11 PLL_AVDD_0V8, L12 PLL_AVDD_1V8, P10 PMU_VDD_0V8, P11 PMUIO1_VDD, R11 GPIO0_A3/SDMMC0_DETN/PCIE_REQN, T6 OSC_24M_OUT, T9 GPIO0_A4/PMIC_SLEEP, T10 GPIO0_A1/TSADC_SHUT_M1, U5 OSC_24M_IN, U11 GPIO0_A2/PCIE_BUTTONRST, V11 GPIO0_A7/PCIE_WAKE, W11 OSC_BPASS, Y10 GPIO0_A6/TSADC_SHUT_M0/TSADC_SHUTORG, Y11 GPIO0_A0/REF_CLKO
part L pins: K16 ADC_AVDD_1V8
part M pins: AA2 PCIE_RX1N, AA3 PCIE_TX1N, N8 PICE_VCCA_0V8, P8 PICE_VCCD_0V8, P9 PICE_VDDREF_0V8, R8 PICE_VCCA_1V8, U4 PCIE_RBIAS, V1 PCIE_RX0N, V2 PCIE_RX0P, W1 PCIE_TX0P, W2 PCIE_TX0N, Y1 PCIE_REFCLKN, Y2 PCIE_REFCLKP, Y3 PCIE_RX1P, Y4 PCIE_TX1P
part N pins: F17 DPHY_RX_AVDD_0V8, F21 DPHY_RX_D0P, G20 DPHY_RX_D1N, G21 DPHY_RX_CLKN, H16 DPHY_RX_AVDD_1V8, H20 DPHY_RX_CLKP, H21 DPHY_RX_D2P, J16 DPHY_RX_D0N, J17 DPHY_RX_D1P, J18 DPHY_RX_D2N, J19 DPHY_RX_D3N, J21 DPHY_RX_D3P
part O pins: A20 DPHY_TX_D1N, B19 DPHY_TX_D0N, B20 DPHY_TX_D0P, C20 DPHY_TX_CLKP, C21 DPHY_TX_D1P, D20 DPHY_TX_CLKN, D21 DPHY_TX_D2N, E21 DPHY_TX_D2P, F20 DPHY_TX_D3N, G15 DPHY_TX_AVDD_1V8, G17 DPHY_TX_AVDD_0V8, H17 DPHY_TX_D3P
part P pins: A17 VSS, A21 AVSS, AA1 AVSS, AA5 AVSS, AA21 VSS, B2 VSS, B17 VSS, B18 VSS, C3 VSS, C4 VSS, C5 VSS, C6 VSS, C8 VSS, C9 VSS, C11 VSS, C12 VSS, C14 VSS, C15 VSS, C18 AVSS, C19 AVSS, D3 VSS, D19 AVSS, E3 VSS, E6 VSS, E8 VSS, E11 VSS, E12 VSS, E19 AVSS, E20 VSS, F3 VSS, F6 VSS, F13 VSS, F16 VSS, G5 VSS, G7 VSS, G8 VSS, G9 VSS, G10 VSS, G11 VSS, G12 VSS, G13 VSS, H3 VSS, H7 VSS, H9 VSS, H13 VSS, H14 VSS, H15 AVSS, H18 AVSS, H19 AVSS, J3 VSS, J7 VSS, J8 VSS, J9 VSS, J11 VSS, J12 VSS, J15 VSS, J20 VSS, K6 VSS, K7 VSS, K12 VSS, K15 VSS, L3 VSS, L5 VSS, L9 VSS, L15 VSS, M3 VSS, M6 VSS, M7 AVSS, M9 VSS, M11 VSS, M12 VSS, M15 VSS, M18 VSS, N6 VSS, N7 VSS, N9 AVSS, N11 VSS, N12 VSS, N13 VSS, N15 VSS, P3 VSS, P6 VSS, P7 VSS, P13 VSS, R1 VSS, R2 VSS, R3 VSS, R9 AVSS, R19 VSS, T3 AVSS, T5 VSS, T7 VSS, T15 VSS, U3 AVSS, V3 AVSS, V5 VSS, V9 VSS, V12 VSS, V15 VSS, W3 AVSS, W5 AVSS, W6 AVSS, W18 VSS, Y5 AVSS
part Q pins: K8 USB_AVDD_3V3, K9 VSS, L8 USB_AVDD_1V8, M8 USB_AVDD_0V8, T1 USB0_DP, T2 USB0_DM, U1 USB1_DP, U2 USB1_DM, V4 USB_VBUS, W4 USB_ID
part R pins: H10 LOGIC_VDD, H11 LOGIC_VDD, H12 LOGIC_VDD, J10 LOGIC_VDD, J13 NPU_VDD, J14 NPU_VDD, K10 LOGIC_VDD, K13 NPU_VDD, K14 NPU_VDD, L10 LOGIC_VDD, L13 NPU_VDD, L14 NPU_VDD, M10 ARM_VDD, M13 NPU_VDD, M14 NPU_VDD, N10 ARM_VDD, N14 NPU_VDD

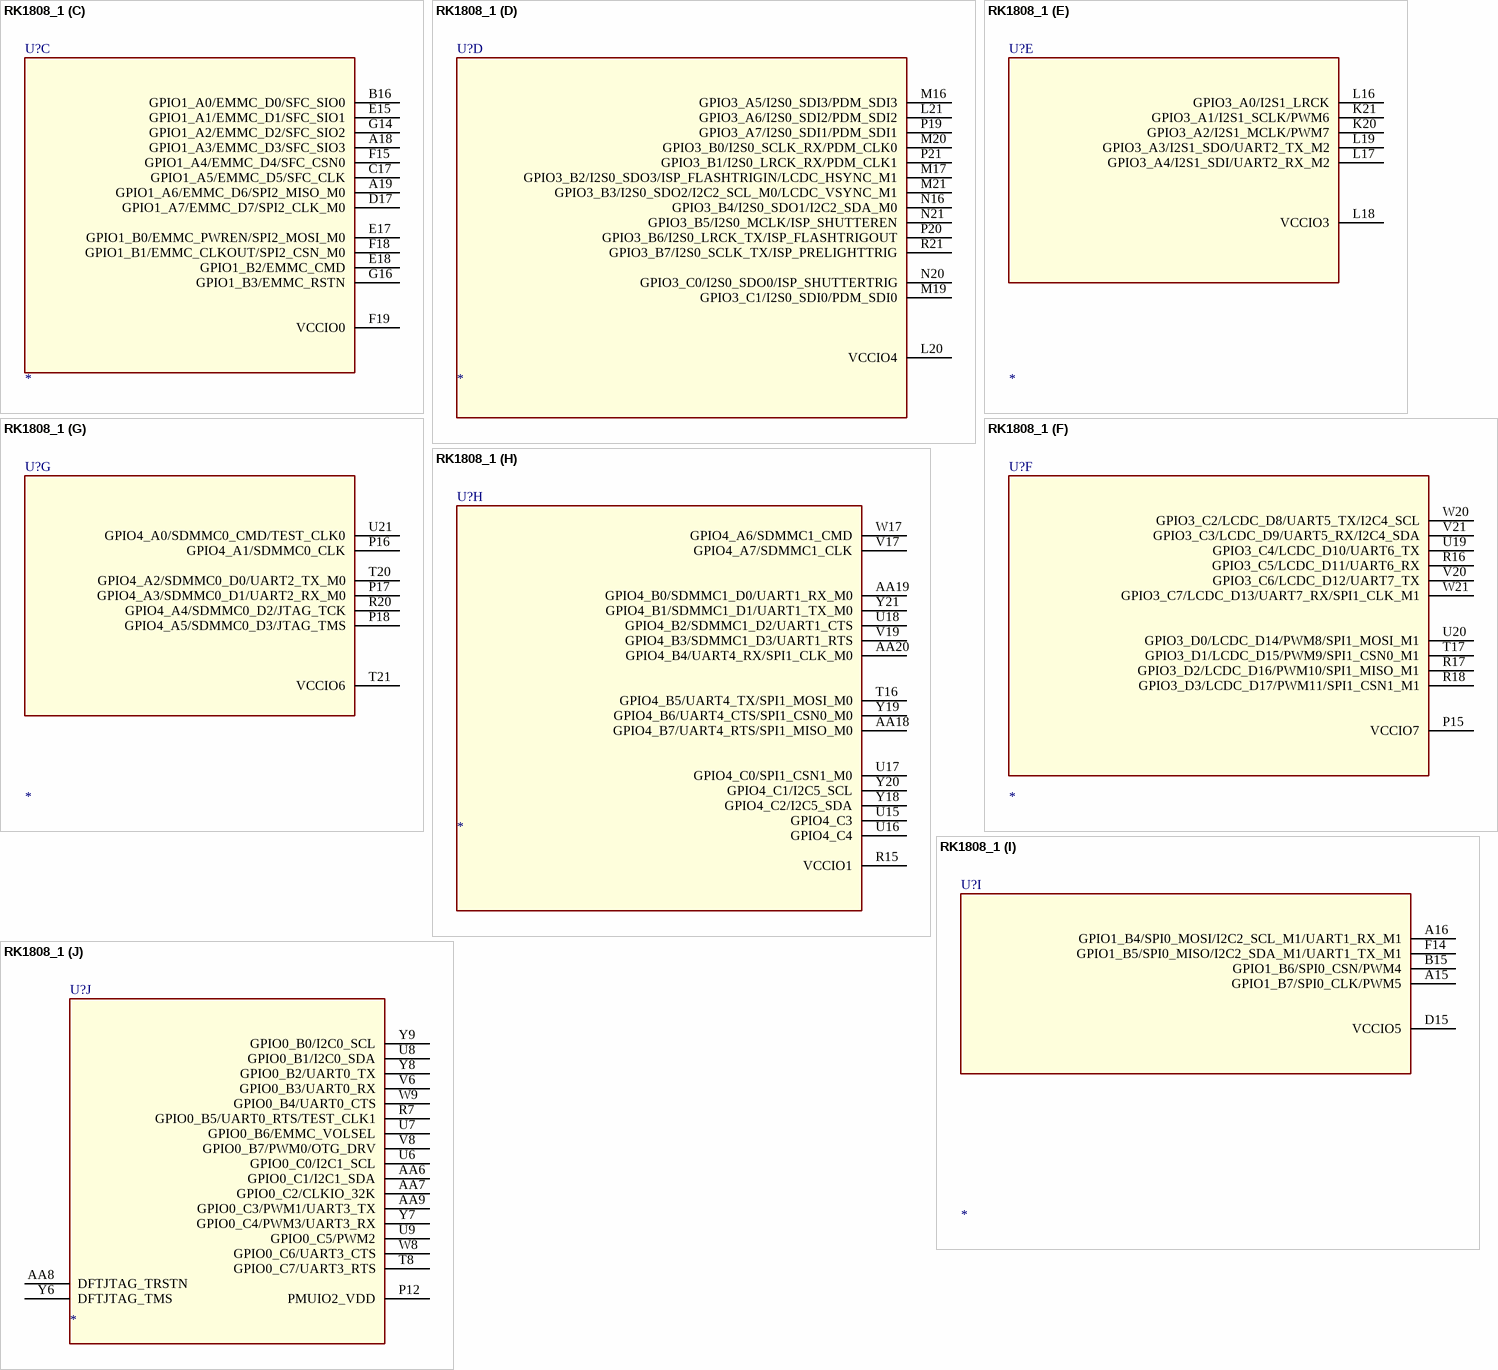
[diagram p262: symbol RK1808_1]

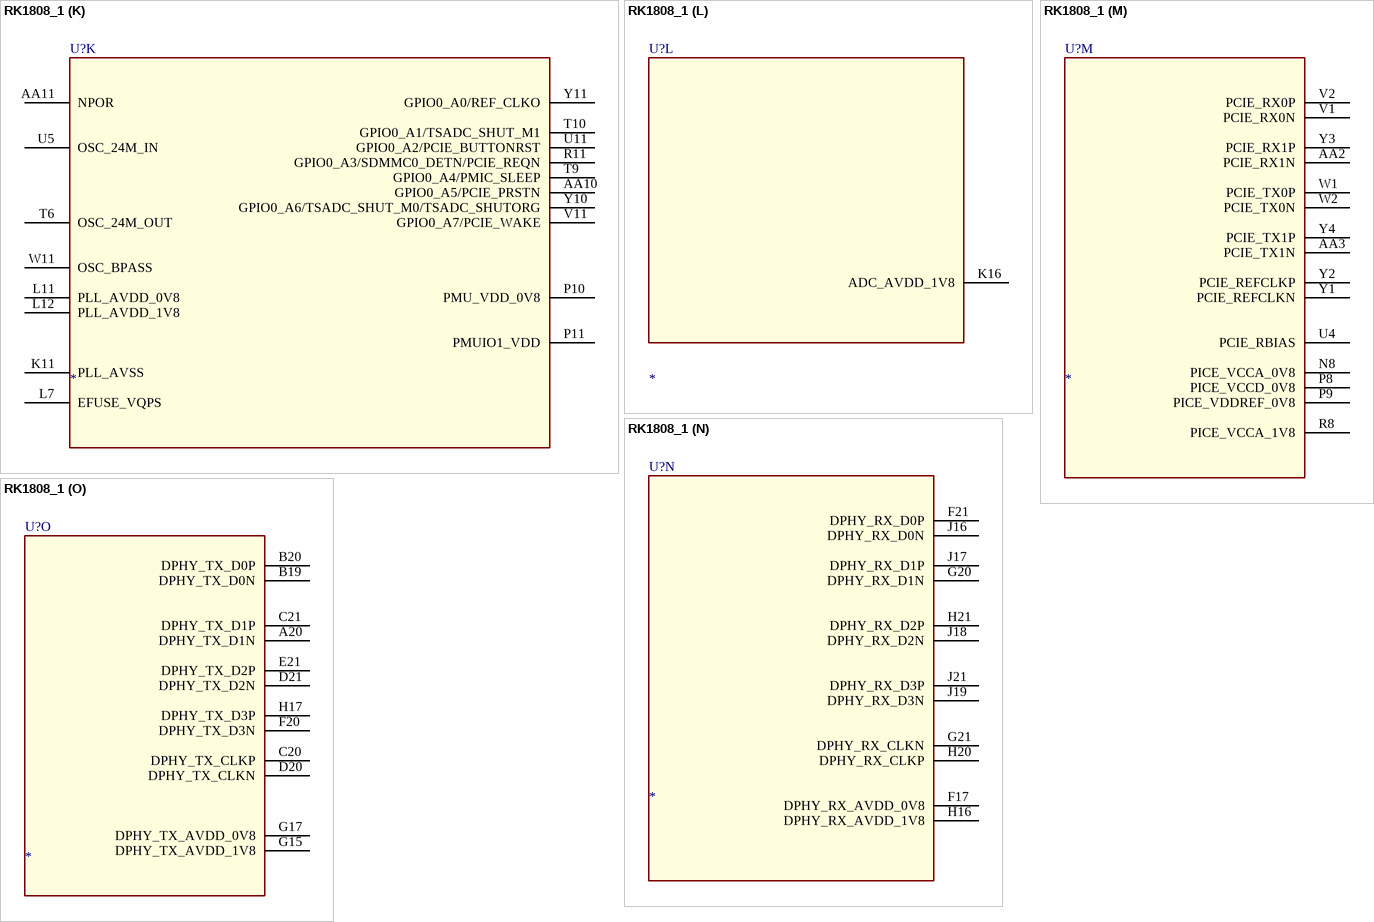
[diagram p263: symbol RK1808_1]

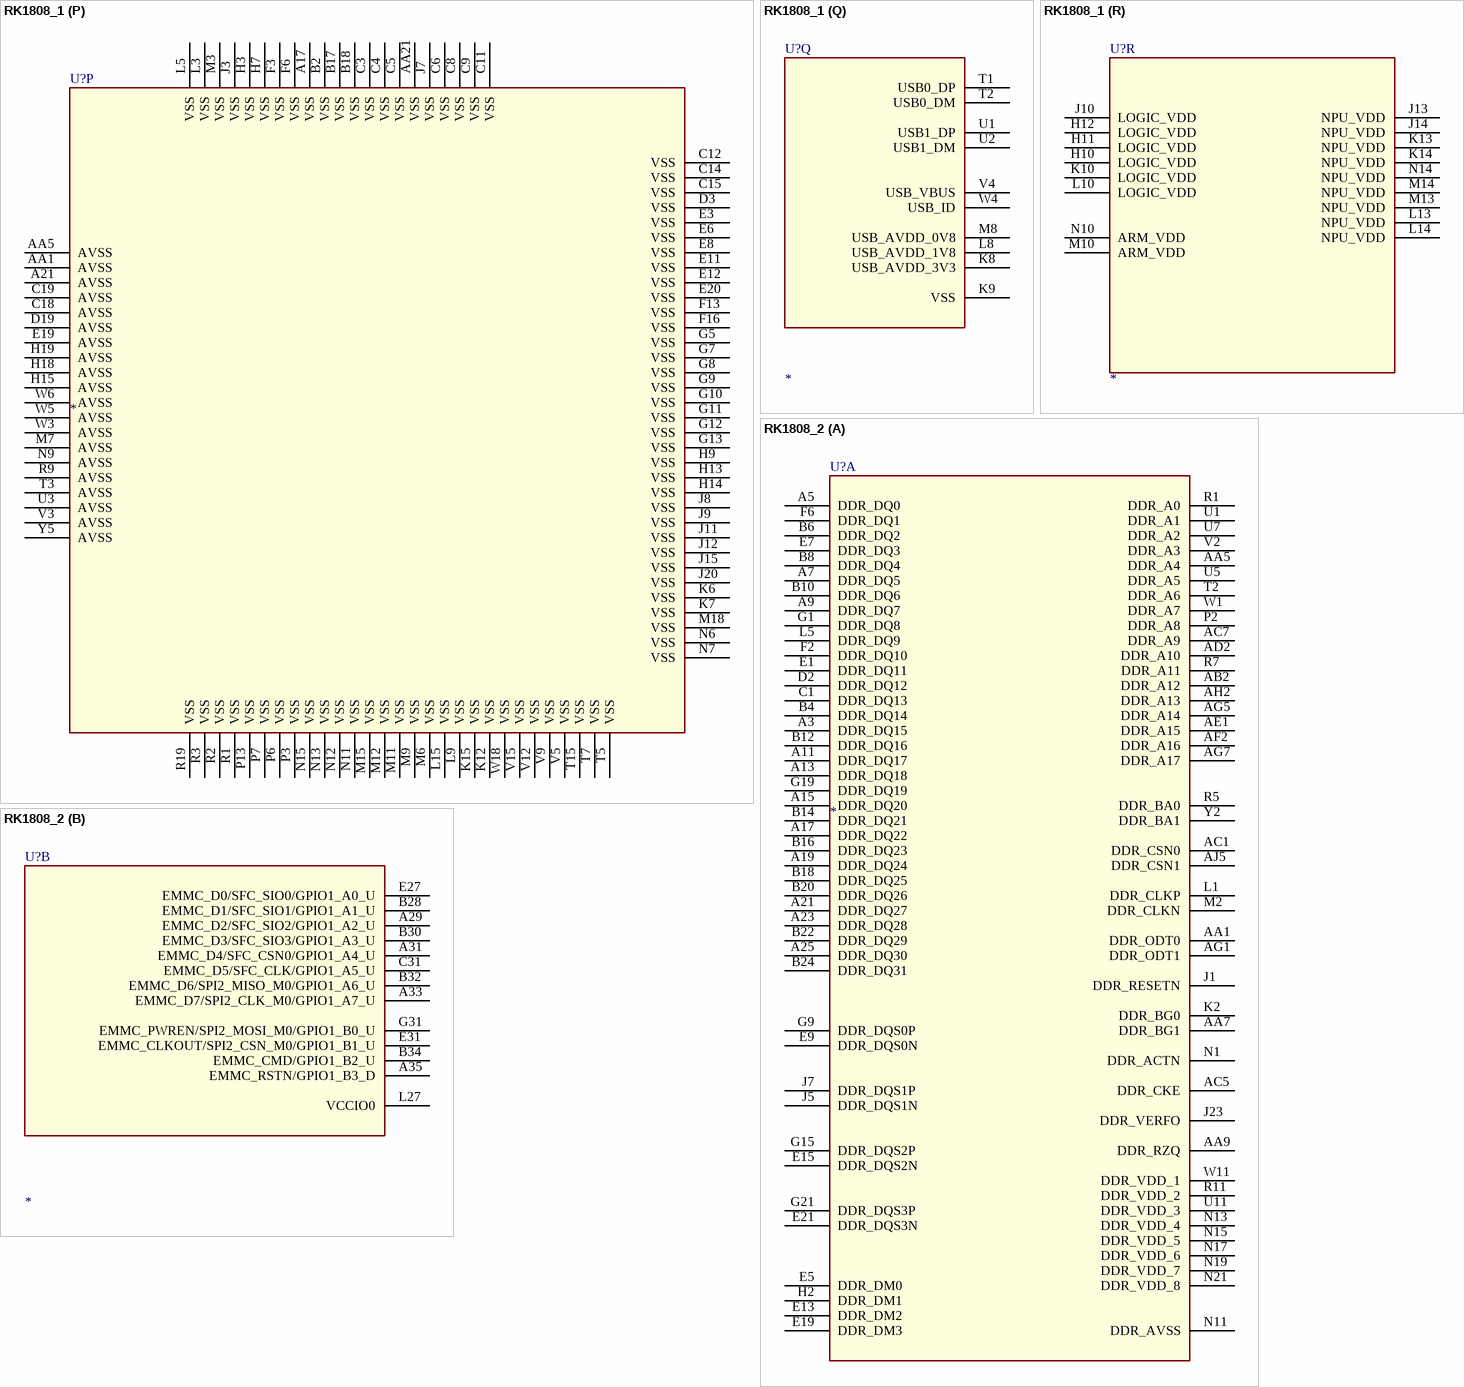
[diagram p264: symbols RK1808_1 to RK1808_2]

## RK1808_1
designator U?
SPLIT_INST: TRUE; SWAP_INFO: (S1+S2+S3+S4+S5+S6+S7+S8+S9+S10+S11+S12+S13+S14+S15+S16+S17+S18)
part A pins: A1 VSS (power), A2 DDR_DQ13, A3 DDR_DQ15, A4 DDR_DQ0, A5 DDR_DQ3, A6 DDR_DQ4, A7 DDR_DQ6, A8 DDR_DQ16, A9 DDR_DQ19, A10 DDR_DQ20, A11 DDR_DQ22, A12 DDR_DQ24, A13 DDR_DQ27, A14 DDR_DQ29, B1 DDR_DQ12, B3 DDR_DQ14, B4 DDR_DQ1, B5 DDR_DQ2, B6 DDR_DQ5, B7 DDR_DQ7, B8 DDR_DQ17, B9 DDR_DQ18, B10 DDR_DQ21, B11 DDR_DQ23, B12 DDR_DQ25, B13 DDR_DQ26, B14 DDR_DQ28, C1 DDR_DQ10, C2 DDR_DQ11, D1 DDR_CLKN, D2 DDR_CLKP, D5 DDR_DQS0N, D6 DDR_DQS0P, D8 DDR_DQS2N, D9 DDR_DQS2P, D11 DDR_DQS3N, D12 DDR_DQS3P, D14 DDR_DQ31, E1 DDR_BG0, E2 DDR_RESETN, E4 DDR_DQS1P, E7 DDR_DM2, E9 DDR_DM3, E14 DDR_DQ30, F1 DDR_A8, F2 DDR_ACTN, F4 DDR_DQS1N, F5 DDR_DM0, F7 DDR_VDD (power), F8 DDR_VDD (power), F9 DDR_VDD (power), F10 DDR_VDD (power), F11 DDR_VDD (power), F12 DDR_VERFO, G1 DDR_BA0, G2 DDR_A11, G6 DDR_VDD (power), H1 DDR_A0, H2 DDR_A6, H4 DDR_DQ8, H5 DDR_DM1, H6 DDR_VDD (power), H8 DDR_AVSS (power), J1 DDR_A1, J2 DDR_A2, J4 DDR_CKE, J5 DDR_DQ9, J6 DDR_VDD (power), K1 DDR_A5, K2 DDR_A3, L1 DDR_BA1, L2 DDR_A7, L4 DDR_A10, L6 DDR_RZQ, M1 DDR_ODT0, M2 DDR_A12, M4 DDR_A4, M5 DDR_BG1, N1 DDR_CSN0, N2 DDR_A15, P1 DDR_A16, P2 DDR_A14, P4 DDR_A13, P5 DDR_A9, R4 DDR_ODT1, R5 DDR_CSN1, R6 DDR_A17
part B pins: AA12 GPIO2_A0/CIF_D12/RGMII_CRS/LCDC_D6, AA13 GPIO2_A5/CIF_D3/RGMII_RXD1/SPI2_CLK_M1, AA14 GPIO2_B0/CIF_D6/RGMII_MDIO, AA15 GPIO2_B5/CIF_HREF/RGMII_RXD2, AA16 GPIO2_C1/CIF_D1/RGMII_TXCLK, AA17 GPIO2_D0/I2C3_SCL/UART2_TX_M1, P14 VCCIO2, R10 GPIO2_A1/CIF_D13/RGMII_TXEN/LCDC_D7, R12 GPIO2_B4/CIF_VSYNC/RGMII_TXD2, R13 GPIO2_C3/CIF_D11/LCDC_D3, R14 GPIO2_C5/LCDC_D5, T11 GPIO2_A3/CIF_D15/RGMII_TXD0/LCDC_D1, T12 GPIO2_B1/CIF_D7/RGMII_COL, T13 GPIO2_B7/CIF_CLKOUT/RGMII_CLK, T14 GPIO2_C7/LCDC_DEN, U12 GPIO2_A6/CIF_D4/RGMII_RXER/SPI2_MOSI_M1, U14 GPIO2_C4/LCDC_D4, V14 GPIO2_C0/CIF_D0/CLKOUT_ETHERNET, W12 GPIO2_A4/CIF_D2/RGMII_RXD0/SPI2_MISO_M1, W14 GPIO2_B2/CIF_D8/RGMII_MDC/LCDC_HSYNC_M0, W15 GPIO2_C2/CIF_D10/RGMII_RXCLK/LCDC_D2, Y12 GPIO2_A2/CIF_D14/RGMII_TXD1/LCDC_D0, Y13 GPIO2_A7/CIF_D5/RGMII_RXDV/SPI2_CSN_M1, Y14 GPIO2_B3/CIF_D9/RGMII_TXD3/LCDC_VSYNC_M0, Y15 GPIO2_B6/CIF_CLKIN/RGMII_RXD3, Y16 GPIO2_C6/LCDC_CLK, Y17 GPIO2_D1/I2C3_SDA/UART2_RX_M1
part C pins: A18 GPIO1_A3/EMMC_D3/SFC_SIO3, A19 GPIO1_A6/EMMC_D6/SPI2_MISO_M0, B16 GPIO1_A0/EMMC_D0/SFC_SIO0, C17 GPIO1_A5/EMMC_D5/SFC_CLK, D17 GPIO1_A7/EMMC_D7/SPI2_CLK_M0, E15 GPIO1_A1/EMMC_D1/SFC_SIO1, E17 GPIO1_B0/EMMC_PWREN/SPI2_MOSI_M0, E18 GPIO1_B2/EMMC_CMD, F15 GPIO1_A4/EMMC_D4/SFC_CSN0, F18 GPIO1_B1/EMMC_CLKOUT/SPI2_CSN_M0, F19 VCCIO0, G14 GPIO1_A2/EMMC_D2/SFC_SIO2, G16 GPIO1_B3/EMMC_RSTN
part D pins: L20 VCCIO4, L21 GPIO3_A6/I2S0_SDI2/PDM_SDI2, M16 GPIO3_A5/I2S0_SDI3/PDM_SDI3, M17 GPIO3_B2/I2S0_SDO3/ISP_FLASHTRIGIN/LCDC_HSYNC_M1, M19 GPIO3_C1/I2S0_SDI0/PDM_SDI0, M20 GPIO3_B0/I2S0_SCLK_RX/PDM_CLK0, M21 GPIO3_B3/I2S0_SDO2/I2C2_SCL_M0/LCDC_VSYNC_M1, N16 GPIO3_B4/I2S0_SDO1/I2C2_SDA_M0, N20 GPIO3_C0/I2S0_SDO0/ISP_SHUTTERTRIG, N21 GPIO3_B5/I2S0_MCLK/ISP_SHUTTEREN, P19 GPIO3_A7/I2S0_SDI1/PDM_SDI1, P20 GPIO3_B6/I2S0_LRCK_TX/ISP_FLASHTRIGOUT, P21 GPIO3_B1/I2S0_LRCK_RX/PDM_CLK1, R21 GPIO3_B7/I2S0_SCLK_TX/ISP_PRELIGHTTRIG
part E pins: K20 GPIO3_A2/I2S1_MCLK/PWM7, K21 GPIO3_A1/I2S1_SCLK/PWM6, L16 GPIO3_A0/I2S1_LRCK, L17 GPIO3_A4/I2S1_SDI/UART2_RX_M2, L18 VCCIO3, L19 GPIO3_A3/I2S1_SDO/UART2_TX_M2
part F pins: P15 VCCIO7, R16 GPIO3_C5/LCDC_D11/UART6_RX, R17 GPIO3_D2/LCDC_D16/PWM10/SPI1_MISO_M1, R18 GPIO3_D3/LCDC_D17/PWM11/SPI1_CSN1_M1, T17 GPIO3_D1/LCDC_D15/PWM9/SPI1_CSN0_M1, U19 GPIO3_C4/LCDC_D10/UART6_TX, U20 GPIO3_D0/LCDC_D14/PWM8/SPI1_MOSI_M1, V20 GPIO3_C6/LCDC_D12/UART7_TX, V21 GPIO3_C3/LCDC_D9/UART5_RX/I2C4_SDA, W20 GPIO3_C2/LCDC_D8/UART5_TX/I2C4_SCL, W21 GPIO3_C7/LCDC_D13/UART7_RX/SPI1_CLK_M1
part G pins: P16 GPIO4_A1/SDMMC0_CLK, P17 GPIO4_A3/SDMMC0_D1/UART2_RX_M0, P18 GPIO4_A5/SDMMC0_D3/JTAG_TMS, R20 GPIO4_A4/SDMMC0_D2/JTAG_TCK, T20 GPIO4_A2/SDMMC0_D0/UART2_TX_M0, T21 VCCIO6, U21 GPIO4_A0/SDMMC0_CMD/TEST_CLK0
part H pins: AA18 GPIO4_B7/UART4_RTS/SPI1_MISO_M0, AA19 GPIO4_B0/SDMMC1_D0/UART1_RX_M0, AA20 GPIO4_B4/UART4_RX/SPI1_CLK_M0, R15 VCCIO1, T16 GPIO4_B5/UART4_TX/SPI1_MOSI_M0, U15 GPIO4_C3, U16 GPIO4_C4, U17 GPIO4_C0/SPI1_CSN1_M0, U18 GPIO4_B2/SDMMC1_D2/UART1_CTS, V17 GPIO4_A7/SDMMC1_CLK, V19 GPIO4_B3/SDMMC1_D3/UART1_RTS, W17 GPIO4_A6/SDMMC1_CMD, Y18 GPIO4_C2/I2C5_SDA, Y19 GPIO4_B6/UART4_CTS/SPI1_CSN0_M0, Y20 GPIO4_C1/I2C5_SCL, Y21 GPIO4_B1/SDMMC1_D1/UART1_TX_M0
part I pins: A15 GPIO1_B7/SPI0_CLK/PWM5, A16 GPIO1_B4/SPI0_MOSI/I2C2_SCL_M1/UART1_RX_M1, B15 GPIO1_B6/SPI0_CSN/PWM4, D15 VCCIO5, F14 GPIO1_B5/SPI0_MISO/I2C2_SDA_M1/UART1_TX_M1
part J pins: AA6 GPIO0_C1/I2C1_SDA, AA7 GPIO0_C2/CLKIO_32K, AA8 DFTJTAG_TRSTN, AA9 GPIO0_C3/PWM1/UART3_TX, P12 PMUIO2_VDD, R7 GPIO0_B5/UART0_RTS/TEST_CLK1, T8 GPIO0_C7/UART3_RTS, U6 GPIO0_C0/I2C1_SCL, U7 GPIO0_B6/EMMC_VOLSEL, U8 GPIO0_B1/I2C0_SDA, U9 GPIO0_C5/PWM2, V6 GPIO0_B3/UART0_RX, V8 GPIO0_B7/PWM0/OTG_DRV, W8 GPIO0_C6/UART3_CTS, W9 GPIO0_B4/UART0_CTS, Y6 DFTJTAG_TMS, Y7 GPIO0_C4/PWM3/UART3_RX, Y8 GPIO0_B2/UART0_TX, Y9 GPIO0_B0/I2C0_SCL
part K pins: AA10 GPIO0_A5/PCIE_PRSTN, AA11 NPOR, K11 PLL_AVSS, L7 EFUSE_VQPS, L11 PLL_AVDD_0V8, L12 PLL_AVDD_1V8, P10 PMU_VDD_0V8, P11 PMUIO1_VDD, R11 GPIO0_A3/SDMMC0_DETN/PCIE_REQN, T6 OSC_24M_OUT, T9 GPIO0_A4/PMIC_SLEEP, T10 GPIO0_A1/TSADC_SHUT_M1, U5 OSC_24M_IN, U11 GPIO0_A2/PCIE_BUTTONRST, V11 GPIO0_A7/PCIE_WAKE, W11 OSC_BPASS, Y10 GPIO0_A6/TSADC_SHUT_M0/TSADC_SHUTORG, Y11 GPIO0_A0/REF_CLKO
part L pins: K16 ADC_AVDD_1V8
part M pins: AA2 PCIE_RX1N, AA3 PCIE_TX1N, N8 PICE_VCCA_0V8, P8 PICE_VCCD_0V8, P9 PICE_VDDREF_0V8, R8 PICE_VCCA_1V8, U4 PCIE_RBIAS, V1 PCIE_RX0N, V2 PCIE_RX0P, W1 PCIE_TX0P, W2 PCIE_TX0N, Y1 PCIE_REFCLKN, Y2 PCIE_REFCLKP, Y3 PCIE_RX1P, Y4 PCIE_TX1P
part N pins: F17 DPHY_RX_AVDD_0V8, F21 DPHY_RX_D0P, G20 DPHY_RX_D1N, G21 DPHY_RX_CLKN, H16 DPHY_RX_AVDD_1V8, H20 DPHY_RX_CLKP, H21 DPHY_RX_D2P, J16 DPHY_RX_D0N, J17 DPHY_RX_D1P, J18 DPHY_RX_D2N, J19 DPHY_RX_D3N, J21 DPHY_RX_D3P
part O pins: A20 DPHY_TX_D1N, B19 DPHY_TX_D0N, B20 DPHY_TX_D0P, C20 DPHY_TX_CLKP, C21 DPHY_TX_D1P, D20 DPHY_TX_CLKN, D21 DPHY_TX_D2N, E21 DPHY_TX_D2P, F20 DPHY_TX_D3N, G15 DPHY_TX_AVDD_1V8, G17 DPHY_TX_AVDD_0V8, H17 DPHY_TX_D3P
part P pins: A17 VSS (power), A21 AVSS (power), AA1 AVSS (power), AA5 AVSS (power), AA21 VSS (power), B2 VSS (power), B17 VSS (power), B18 VSS (power), C3 VSS (power), C4 VSS (power), C5 VSS (power), C6 VSS (power), C8 VSS (power), C9 VSS (power), C11 VSS (power), C12 VSS (power), C14 VSS (power), C15 VSS (power), C18 AVSS (power), C19 AVSS (power), D3 VSS (power), D19 AVSS (power), E3 VSS (power), E6 VSS (power), E8 VSS (power), E11 VSS (power), E12 VSS (power), E19 AVSS (power), E20 VSS (power), F3 VSS (power), F6 VSS (power), F13 VSS (power), F16 VSS (power), G5 VSS (power), G7 VSS (power), G8 VSS (power), G9 VSS (power), G10 VSS (power), G11 VSS (power), G12 VSS (power), G13 VSS (power), H3 VSS (power), H7 VSS (power), H9 VSS (power), H13 VSS (power), H14 VSS (power), H15 AVSS (power), H18 AVSS (power), H19 AVSS (power), J3 VSS (power), J7 VSS (power), J8 VSS (power), J9 VSS (power), J11 VSS (power), J12 VSS (power), J15 VSS (power), J20 VSS (power), K6 VSS (power), K7 VSS (power), K12 VSS (power), K15 VSS (power), L3 VSS (power), L5 VSS (power), L9 VSS (power), L15 VSS (power), M3 VSS (power), M6 VSS (power), M7 AVSS (power), M9 VSS (power), M11 VSS (power), M12 VSS (power), M15 VSS (power), M18 VSS (power), N6 VSS (power), N7 VSS (power), N9 AVSS (power), N11 VSS (power), N12 VSS (power), N13 VSS (power), N15 VSS (power), P3 VSS (power), P6 VSS (power), P7 VSS (power), P13 VSS (power), R1 VSS (power), R2 VSS (power), R3 VSS (power), R9 AVSS (power), R19 VSS (power), T3 AVSS (power), T5 VSS (power), T7 VSS (power), T15 VSS (power), U3 AVSS (power), V3 AVSS (power), V5 VSS (power), V9 VSS (power), V12 VSS (power), V15 VSS (power), W3 AVSS (power), W5 AVSS (power), W6 AVSS (power), W18 VSS (power), Y5 AVSS (power)
part Q pins: K8 USB_AVDD_3V3, K9 VSS (power), L8 USB_AVDD_1V8, M8 USB_AVDD_0V8, T1 USB0_DP, T2 USB0_DM, U1 USB1_DP, U2 USB1_DM, V4 USB_VBUS, W4 USB_ID
part R pins: H10 LOGIC_VDD (power), H11 LOGIC_VDD (power), H12 LOGIC_VDD (power), J10 LOGIC_VDD (power), J13 NPU_VDD (power), J14 NPU_VDD (power), K10 LOGIC_VDD (power), K13 NPU_VDD (power), K14 NPU_VDD (power), L10 LOGIC_VDD (power), L13 NPU_VDD (power), L14 NPU_VDD (power), M10 ARM_VDD (power), M13 NPU_VDD (power), M14 NPU_VDD (power), N10 ARM_VDD (power), N14 NPU_VDD (power)

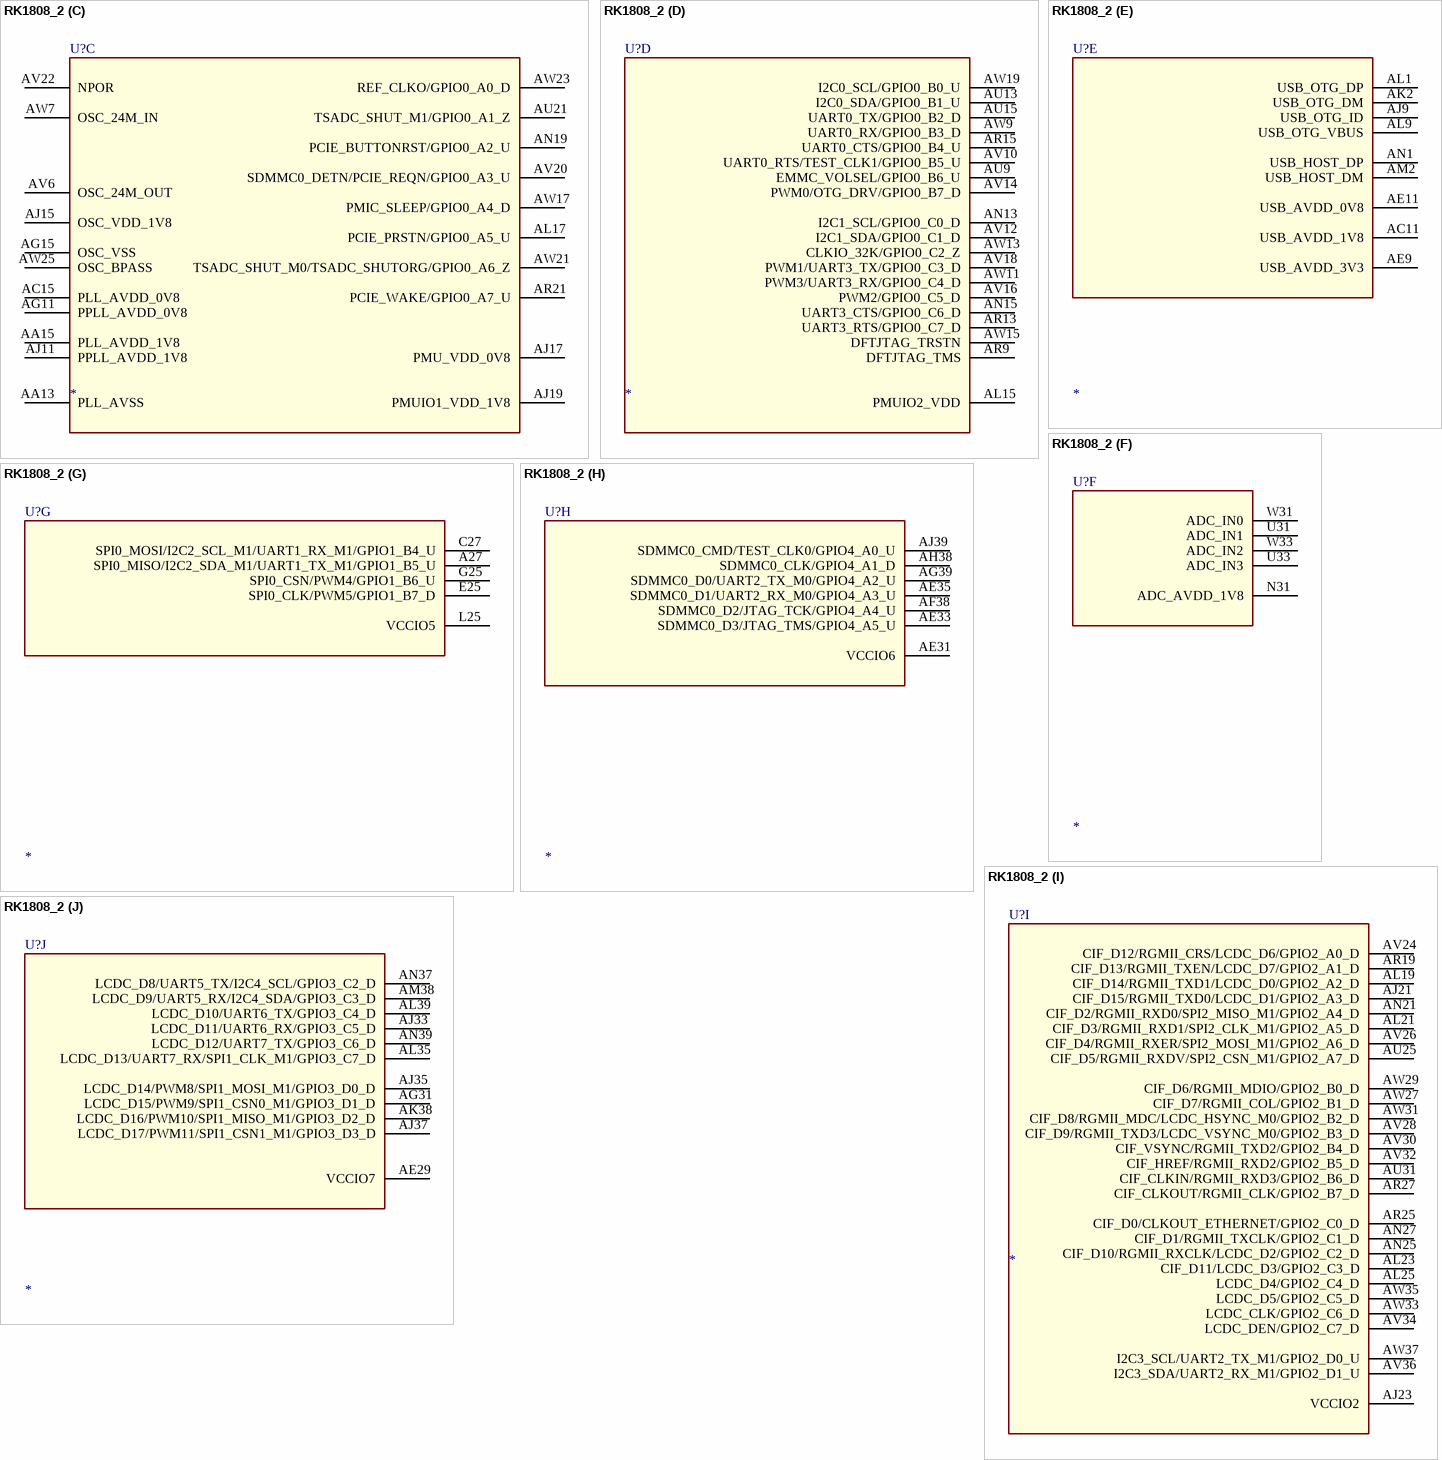
[diagram p265: symbol RK1808_2]

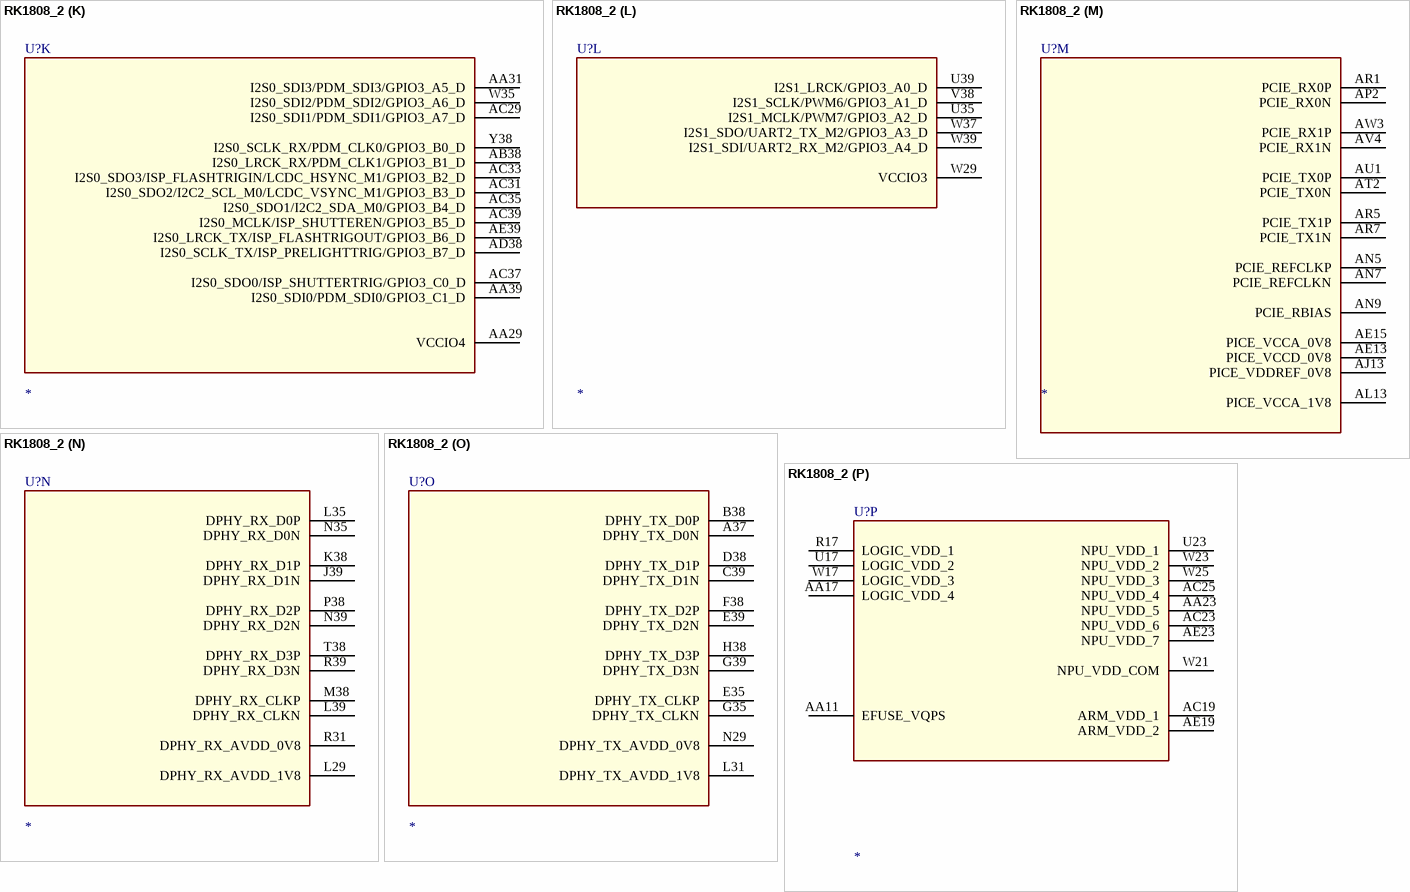
[diagram p266: symbol RK1808_2]

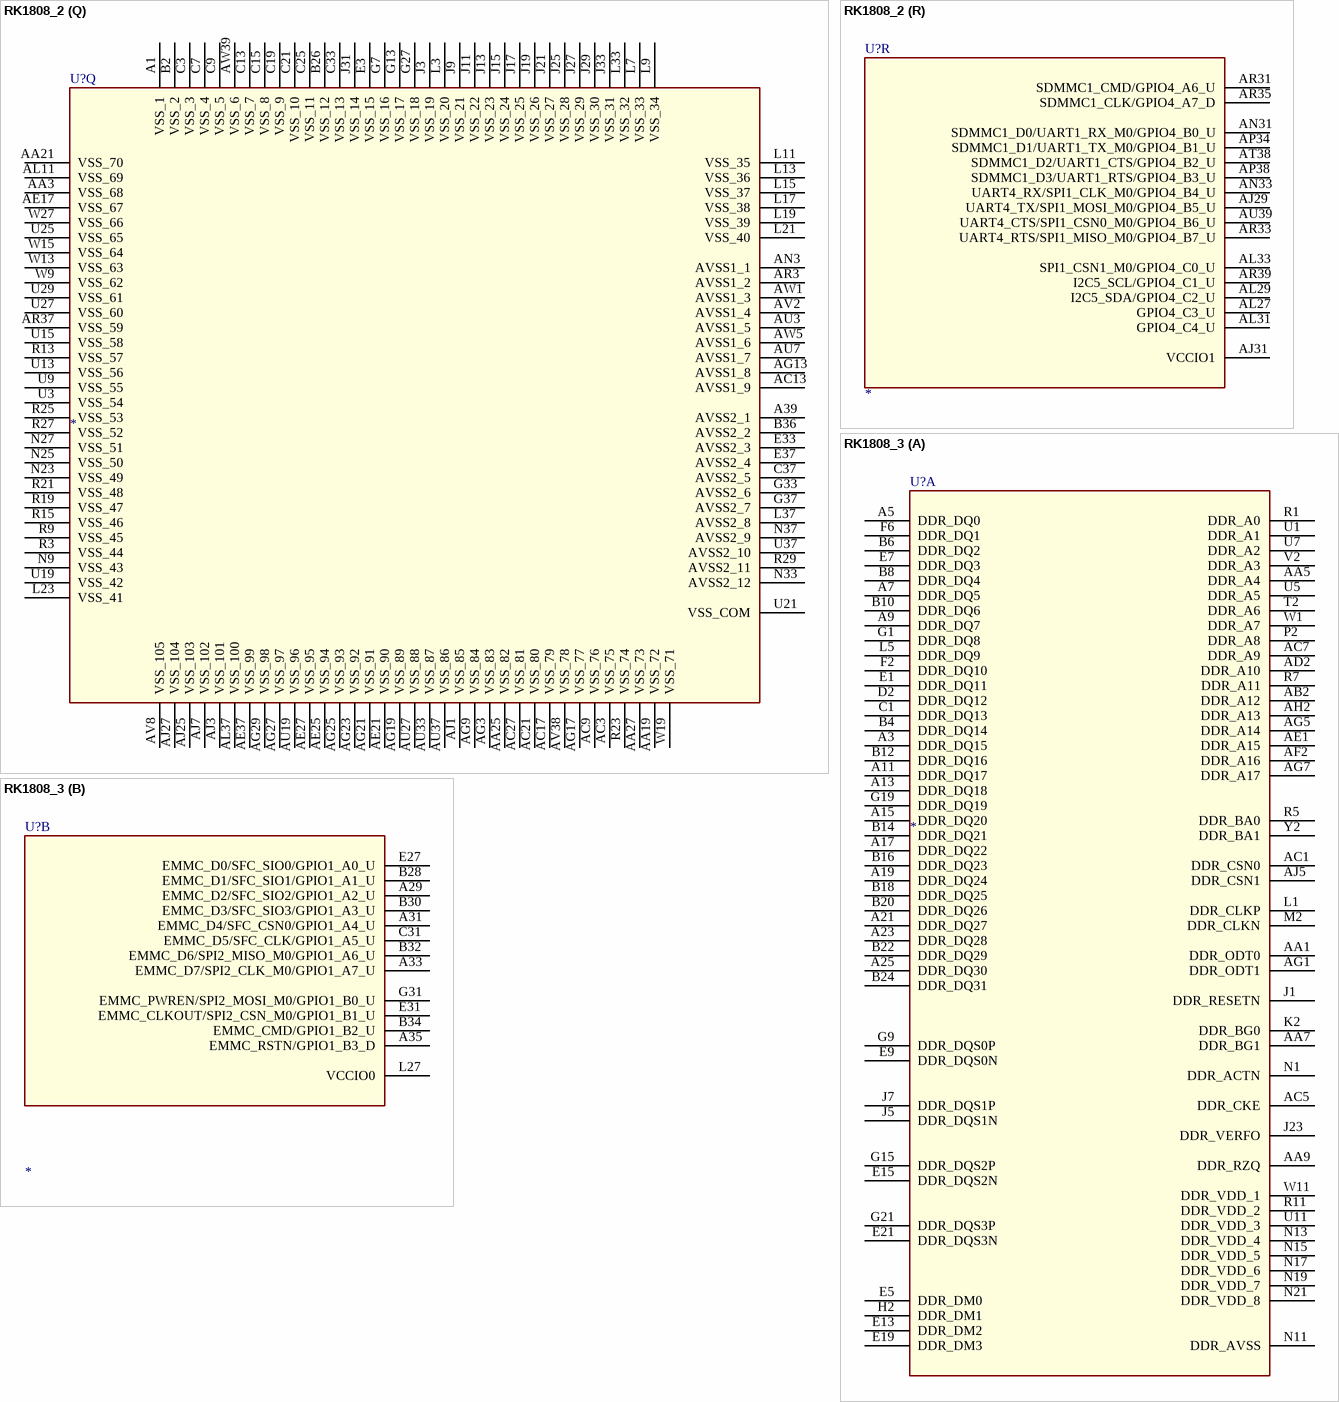
[diagram p267: symbols RK1808_2 to RK1808_3]